# Altium integrated library Actel ProASIC3 nano.IntLib: 200 symbols (part 2 of 15)
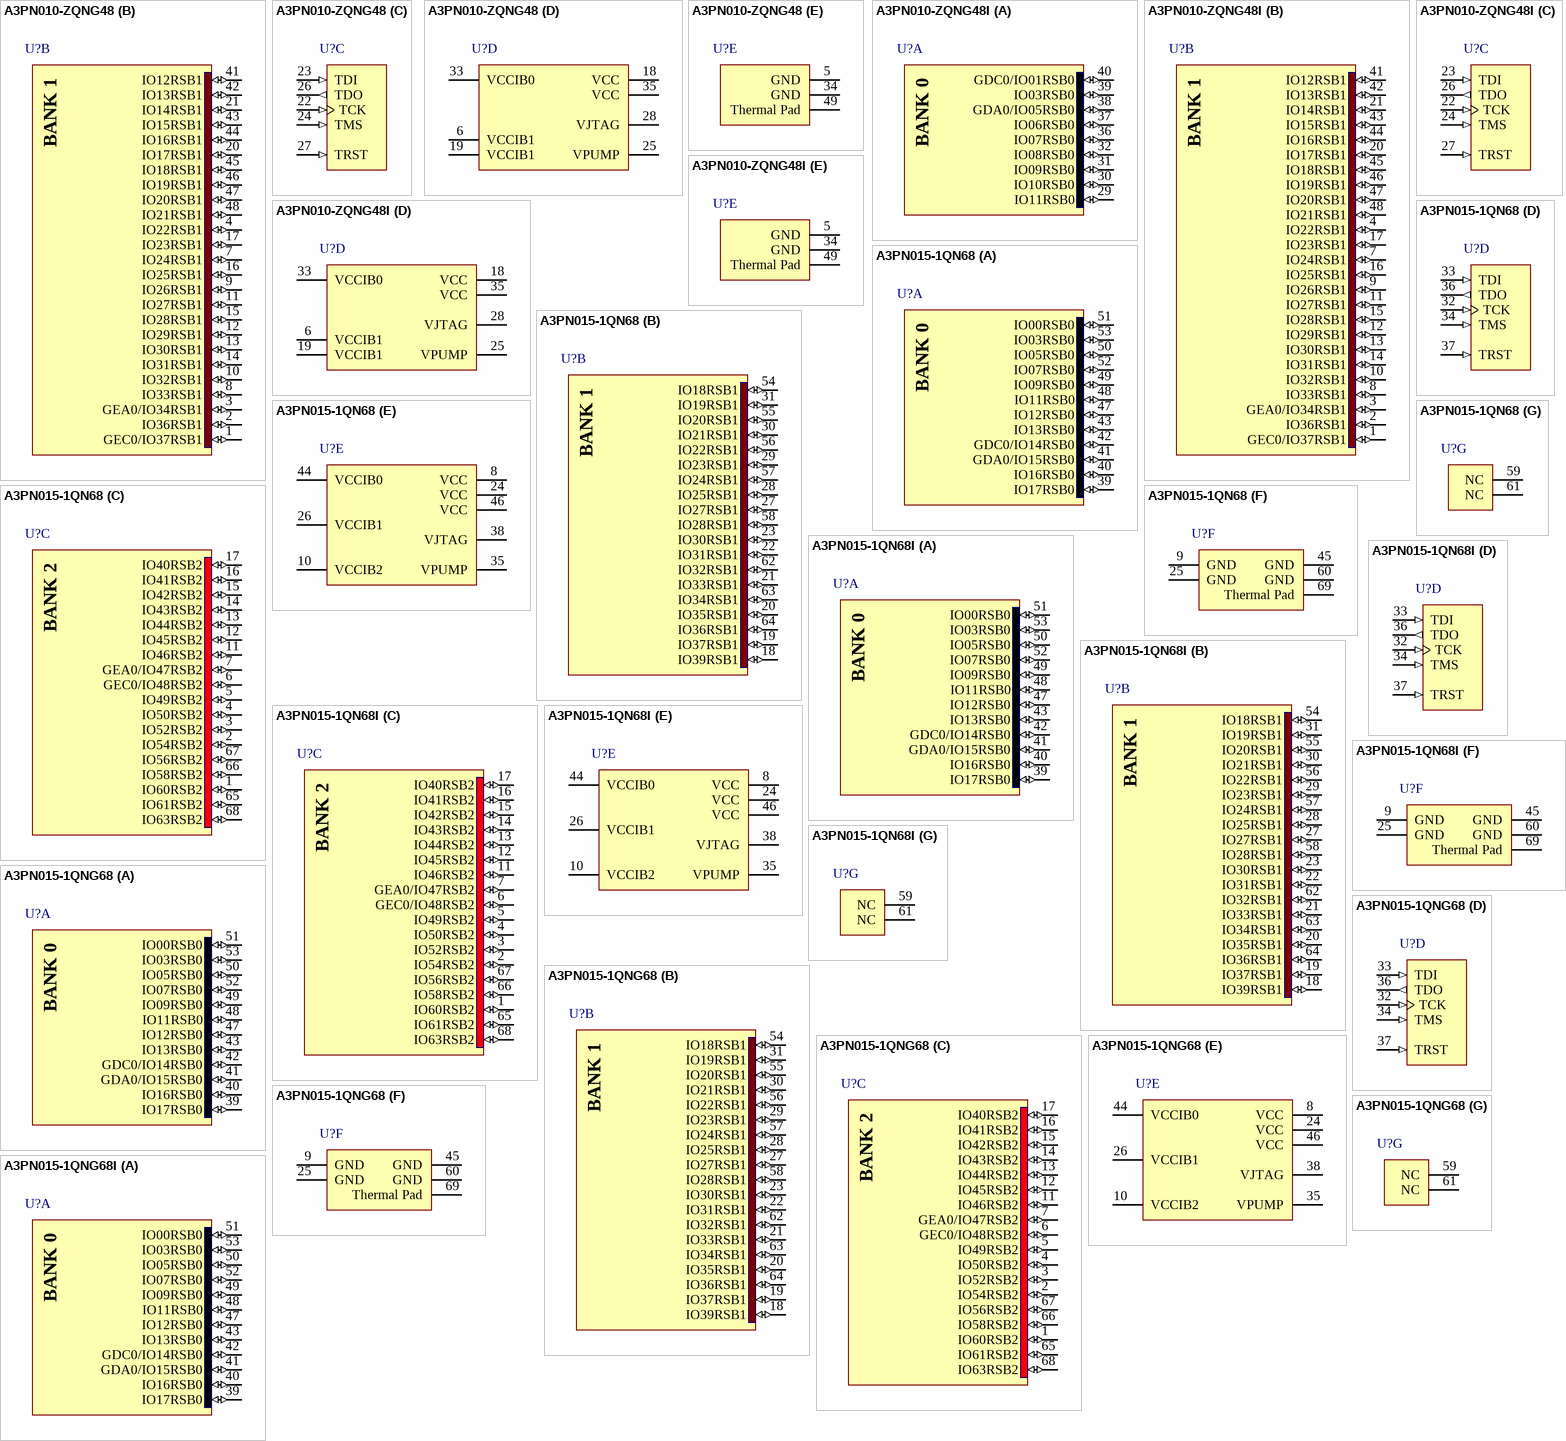
[diagram p50: symbols A3PN010-ZQNG48 to A3PN015-1QNG68I]

## A3PN010-ZQNG48
designator U?
ProASIC3 nano Flash FPGA, 34 User IOs, 10K System Gates, Z Feature Grade, Standard Speed, 48-Pin QFP, Pb-Free, Commerical Grade; DatasheetVersion: v0.6, Jan-2010; PackageVersion: rev40, Jun-2011; PackageReference: QN48; PackageDescription: 48-Pin Quad Flat No-Lead 0.4 mm Pitch (QN48); Code_JEDEC: MO-220-VLLE-1; ComponentLink1Description: Manufacturer URL; ComponentLink1URL: http://www.actel.com/; ComponentLink2Description: ProASIC3 Datasheet; ComponentLink2URL: http://www.actel.com/documents/PA3_nano_DS.pdf; ComponentLink3Description: Package Mechanical Drawings; ComponentLink3URL: http://www.actel.com/documents/PckgMechDrwngs.pdf; ComponentLink4Description: ProASIC3 nano Documents; ComponentLink4URL: http://www.actel.com/products/pa3nano/docs.aspx
footprint QN48_N (QFN, 48-Leads, Body 6x6mm, Pitch 0.4mm, Thermal Pad 4.8x4.8mm, IPC Medium Density)
footprint QN48_L (QFN, 48-Leads, Body 6x6mm, Pitch 0.4mm, Thermal Pad 4.8x4.8mm, IPC High Density)
footprint QN48_M (QFN, 48-Leads, Body 6x6mm, Pitch 0.4mm, Thermal Pad 4.8x4.8mm, IPC Low Density)
part A pins: 29 IO11RSB0 (io), 30 IO10RSB0 (io), 31 IO09RSB0 (io), 32 IO08RSB0 (io), 36 IO07RSB0 (io), 37 IO06RSB0 (io), 38 GDA0/IO05RSB0 (io), 39 IO03RSB0 (io), 40 GDC0/IO01RSB0 (io)
part B pins: 1 GEC0/IO37RSB1 (io), 2 IO36RSB1 (io), 3 GEA0/IO34RSB1 (io), 4 IO22RSB1 (io), 7 IO24RSB1 (io), 8 IO33RSB1 (io), 9 IO26RSB1 (io), 10 IO32RSB1 (io), 11 IO27RSB1 (io), 12 IO29RSB1 (io), 13 IO30RSB1 (io), 14 IO31RSB1 (io), 15 IO28RSB1 (io), 16 IO25RSB1 (io), 17 IO23RSB1 (io), 20 IO17RSB1 (io), 21 IO14RSB1 (io), 41 IO12RSB1 (io), 42 IO13RSB1 (io), 43 IO15RSB1 (io), 44 IO16RSB1 (io), 45 IO18RSB1 (io), 46 IO19RSB1 (io), 47 IO20RSB1 (io), 48 IO21RSB1 (io)
part C pins: 22 TCK (in), 23 TDI (in), 24 TMS (in), 26 TDO (out), 27 TRST (in)
part D pins: 6 VCCIB1 (power), 18 VCC (power), 19 VCCIB1 (power), 25 VPUMP (power), 28 VJTAG (power), 33 VCCIB0 (power), 35 VCC (power)
part E pins: 5 GND (power), 34 GND (power), 49 Thermal Pad (power)
part A text: BANK 0
part B text: BANK 1

## A3PN010-ZQNG48I
designator U?
ProASIC3 nano Flash FPGA, 34 User IOs, 10K System Gates, Z Feature Grade, Standard Speed, 48-Pin QFP, Pb-Free, Industrial Grade; DatasheetVersion: v0.6, Jan-2010; PackageVersion: rev40, Jun-2011; PackageReference: QN48; PackageDescription: 48-Pin Quad Flat No-Lead 0.4 mm Pitch (QN48); Code_JEDEC: MO-220-VLLE-1; ComponentLink1Description: Manufacturer URL; ComponentLink1URL: http://www.actel.com/; ComponentLink2Description: ProASIC3 Datasheet; ComponentLink2URL: http://www.actel.com/documents/PA3_nano_DS.pdf; ComponentLink3Description: Package Mechanical Drawings; ComponentLink3URL: http://www.actel.com/documents/PckgMechDrwngs.pdf; ComponentLink4Description: ProASIC3 nano Documents; ComponentLink4URL: http://www.actel.com/products/pa3nano/docs.aspx
footprint QN48_N (QFN, 48-Leads, Body 6x6mm, Pitch 0.4mm, Thermal Pad 4.8x4.8mm, IPC Medium Density)
footprint QN48_L (QFN, 48-Leads, Body 6x6mm, Pitch 0.4mm, Thermal Pad 4.8x4.8mm, IPC High Density)
footprint QN48_M (QFN, 48-Leads, Body 6x6mm, Pitch 0.4mm, Thermal Pad 4.8x4.8mm, IPC Low Density)
part A pins: 29 IO11RSB0 (io), 30 IO10RSB0 (io), 31 IO09RSB0 (io), 32 IO08RSB0 (io), 36 IO07RSB0 (io), 37 IO06RSB0 (io), 38 GDA0/IO05RSB0 (io), 39 IO03RSB0 (io), 40 GDC0/IO01RSB0 (io)
part B pins: 1 GEC0/IO37RSB1 (io), 2 IO36RSB1 (io), 3 GEA0/IO34RSB1 (io), 4 IO22RSB1 (io), 7 IO24RSB1 (io), 8 IO33RSB1 (io), 9 IO26RSB1 (io), 10 IO32RSB1 (io), 11 IO27RSB1 (io), 12 IO29RSB1 (io), 13 IO30RSB1 (io), 14 IO31RSB1 (io), 15 IO28RSB1 (io), 16 IO25RSB1 (io), 17 IO23RSB1 (io), 20 IO17RSB1 (io), 21 IO14RSB1 (io), 41 IO12RSB1 (io), 42 IO13RSB1 (io), 43 IO15RSB1 (io), 44 IO16RSB1 (io), 45 IO18RSB1 (io), 46 IO19RSB1 (io), 47 IO20RSB1 (io), 48 IO21RSB1 (io)
part C pins: 22 TCK (in), 23 TDI (in), 24 TMS (in), 26 TDO (out), 27 TRST (in)
part D pins: 6 VCCIB1 (power), 18 VCC (power), 19 VCCIB1 (power), 25 VPUMP (power), 28 VJTAG (power), 33 VCCIB0 (power), 35 VCC (power)
part E pins: 5 GND (power), 34 GND (power), 49 Thermal Pad (power)
part A text: BANK 0
part B text: BANK 1

## A3PN015-1QN68
designator U?
ProASIC3 nano Flash FPGA, 49 User IOs, 15K System Gates, Speed 15% above Standard, 68-Pin QFP, Commerical Grade; DatasheetVersion: v0.6, Jan-2010; PackageVersion: rev40, Jun-2011; PackageReference: QN68; PackageDescription: 68-Pin Quad Flat No-Lead 0.4 mm Pitch (QN68); Code_JEDEC: MO-220-VLLE-1; ComponentLink1Description: Manufacturer URL; ComponentLink1URL: http://www.actel.com/; ComponentLink2Description: ProASIC3 Datasheet; ComponentLink2URL: http://www.actel.com/documents/PA3_nano_DS.pdf; ComponentLink3Description: Package Mechanical Drawings; ComponentLink3URL: http://www.actel.com/documents/PckgMechDrwngs.pdf; ComponentLink4Description: ProASIC3 nano Documents; ComponentLink4URL: http://www.actel.com/products/pa3nano/docs.aspx
footprint QN68_N (QFN, 68-Leads, Body 8x8mm, Pitch 0.4mm, Thermal Pad 3.1x3.1mm, IPC Medium Density)
footprint QN68_L (QFN, 68-Leads, Body 8x8mm, Pitch 0.4mm, Thermal Pad 3.1x3.1mm, IPC High Density)
footprint QN68_M (QFN, 68-Leads, Body 8x8mm, Pitch 0.4mm, Thermal Pad 3.1x3.1mm, IPC Low Density)
part A pins: 39 IO17RSB0 (io), 40 IO16RSB0 (io), 41 GDA0/IO15RSB0 (io), 42 GDC0/IO14RSB0 (io), 43 IO13RSB0 (io), 47 IO12RSB0 (io), 48 IO11RSB0 (io), 49 IO09RSB0 (io), 50 IO05RSB0 (io), 51 IO00RSB0 (io), 52 IO07RSB0 (io), 53 IO03RSB0 (io)
part B pins: 18 IO39RSB1 (io), 19 IO37RSB1 (io), 20 IO35RSB1 (io), 21 IO33RSB1 (io), 22 IO31RSB1 (io), 23 IO30RSB1 (io), 27 IO27RSB1 (io), 28 IO25RSB1 (io), 29 IO23RSB1 (io), 30 IO21RSB1 (io), 31 IO19RSB1 (io), 54 IO18RSB1 (io), 55 IO20RSB1 (io), 56 IO22RSB1 (io), 57 IO24RSB1 (io), 58 IO28RSB1 (io), 62 IO32RSB1 (io), 63 IO34RSB1 (io), 64 IO36RSB1 (io)
part C pins: 1 IO60RSB2 (io), 2 IO54RSB2 (io), 3 IO52RSB2 (io), 4 IO50RSB2 (io), 5 IO49RSB2 (io), 6 GEC0/IO48RSB2 (io), 7 GEA0/IO47RSB2 (io), 11 IO46RSB2 (io), 12 IO45RSB2 (io), 13 IO44RSB2 (io), 14 IO43RSB2 (io), 15 IO42RSB2 (io), 16 IO41RSB2 (io), 17 IO40RSB2 (io), 65 IO61RSB2 (io), 66 IO58RSB2 (io), 67 IO56RSB2 (io), 68 IO63RSB2 (io)
part D pins: 32 TCK (in), 33 TDI (in), 34 TMS (in), 36 TDO (out), 37 TRST (in)
part E pins: 8 VCC (power), 10 VCCIB2 (power), 24 VCC (power), 26 VCCIB1 (power), 35 VPUMP (power), 38 VJTAG (power), 44 VCCIB0 (power), 46 VCC (power)
part F pins: 9 GND (power), 25 GND (power), 45 GND (power), 60 GND (power), 69 Thermal Pad (power)
part G pins: 59 NC, 61 NC
part A text: BANK 0
part B text: BANK 1
part C text: BANK 2

## A3PN015-1QN68I
designator U?
ProASIC3 nano Flash FPGA, 49 User IOs, 15K System Gates, Speed 15% above Standard, 68-Pin QFP, Industrial Grade; DatasheetVersion: v0.6, Jan-2010; PackageVersion: rev40, Jun-2011; PackageReference: QN68; PackageDescription: 68-Pin Quad Flat No-Lead 0.4 mm Pitch (QN68); Code_JEDEC: MO-220-VLLE-1; ComponentLink1Description: Manufacturer URL; ComponentLink1URL: http://www.actel.com/; ComponentLink2Description: ProASIC3 Datasheet; ComponentLink2URL: http://www.actel.com/documents/PA3_nano_DS.pdf; ComponentLink3Description: Package Mechanical Drawings; ComponentLink3URL: http://www.actel.com/documents/PckgMechDrwngs.pdf; ComponentLink4Description: ProASIC3 nano Documents; ComponentLink4URL: http://www.actel.com/products/pa3nano/docs.aspx
footprint QN68_N (QFN, 68-Leads, Body 8x8mm, Pitch 0.4mm, Thermal Pad 3.1x3.1mm, IPC Medium Density)
footprint QN68_L (QFN, 68-Leads, Body 8x8mm, Pitch 0.4mm, Thermal Pad 3.1x3.1mm, IPC High Density)
footprint QN68_M (QFN, 68-Leads, Body 8x8mm, Pitch 0.4mm, Thermal Pad 3.1x3.1mm, IPC Low Density)
part A pins: 39 IO17RSB0 (io), 40 IO16RSB0 (io), 41 GDA0/IO15RSB0 (io), 42 GDC0/IO14RSB0 (io), 43 IO13RSB0 (io), 47 IO12RSB0 (io), 48 IO11RSB0 (io), 49 IO09RSB0 (io), 50 IO05RSB0 (io), 51 IO00RSB0 (io), 52 IO07RSB0 (io), 53 IO03RSB0 (io)
part B pins: 18 IO39RSB1 (io), 19 IO37RSB1 (io), 20 IO35RSB1 (io), 21 IO33RSB1 (io), 22 IO31RSB1 (io), 23 IO30RSB1 (io), 27 IO27RSB1 (io), 28 IO25RSB1 (io), 29 IO23RSB1 (io), 30 IO21RSB1 (io), 31 IO19RSB1 (io), 54 IO18RSB1 (io), 55 IO20RSB1 (io), 56 IO22RSB1 (io), 57 IO24RSB1 (io), 58 IO28RSB1 (io), 62 IO32RSB1 (io), 63 IO34RSB1 (io), 64 IO36RSB1 (io)
part C pins: 1 IO60RSB2 (io), 2 IO54RSB2 (io), 3 IO52RSB2 (io), 4 IO50RSB2 (io), 5 IO49RSB2 (io), 6 GEC0/IO48RSB2 (io), 7 GEA0/IO47RSB2 (io), 11 IO46RSB2 (io), 12 IO45RSB2 (io), 13 IO44RSB2 (io), 14 IO43RSB2 (io), 15 IO42RSB2 (io), 16 IO41RSB2 (io), 17 IO40RSB2 (io), 65 IO61RSB2 (io), 66 IO58RSB2 (io), 67 IO56RSB2 (io), 68 IO63RSB2 (io)
part D pins: 32 TCK (in), 33 TDI (in), 34 TMS (in), 36 TDO (out), 37 TRST (in)
part E pins: 8 VCC (power), 10 VCCIB2 (power), 24 VCC (power), 26 VCCIB1 (power), 35 VPUMP (power), 38 VJTAG (power), 44 VCCIB0 (power), 46 VCC (power)
part F pins: 9 GND (power), 25 GND (power), 45 GND (power), 60 GND (power), 69 Thermal Pad (power)
part G pins: 59 NC, 61 NC
part A text: BANK 0
part B text: BANK 1
part C text: BANK 2

## A3PN015-1QNG68
designator U?
ProASIC3 nano Flash FPGA, 49 User IOs, 15K System Gates, Speed 15% above Standard, 68-Pin QFP, Pb-Free, Commerical Grade; DatasheetVersion: v0.6, Jan-2010; PackageVersion: rev40, Jun-2011; PackageReference: QN68; PackageDescription: 68-Pin Quad Flat No-Lead 0.4 mm Pitch (QN68); Code_JEDEC: MO-220-VLLE-1; ComponentLink1Description: Manufacturer URL; ComponentLink1URL: http://www.actel.com/; ComponentLink2Description: ProASIC3 Datasheet; ComponentLink2URL: http://www.actel.com/documents/PA3_nano_DS.pdf; ComponentLink3Description: Package Mechanical Drawings; ComponentLink3URL: http://www.actel.com/documents/PckgMechDrwngs.pdf; ComponentLink4Description: ProASIC3 nano Documents; ComponentLink4URL: http://www.actel.com/products/pa3nano/docs.aspx
footprint QN68_N (QFN, 68-Leads, Body 8x8mm, Pitch 0.4mm, Thermal Pad 3.1x3.1mm, IPC Medium Density)
footprint QN68_L (QFN, 68-Leads, Body 8x8mm, Pitch 0.4mm, Thermal Pad 3.1x3.1mm, IPC High Density)
footprint QN68_M (QFN, 68-Leads, Body 8x8mm, Pitch 0.4mm, Thermal Pad 3.1x3.1mm, IPC Low Density)
part A pins: 39 IO17RSB0 (io), 40 IO16RSB0 (io), 41 GDA0/IO15RSB0 (io), 42 GDC0/IO14RSB0 (io), 43 IO13RSB0 (io), 47 IO12RSB0 (io), 48 IO11RSB0 (io), 49 IO09RSB0 (io), 50 IO05RSB0 (io), 51 IO00RSB0 (io), 52 IO07RSB0 (io), 53 IO03RSB0 (io)
part B pins: 18 IO39RSB1 (io), 19 IO37RSB1 (io), 20 IO35RSB1 (io), 21 IO33RSB1 (io), 22 IO31RSB1 (io), 23 IO30RSB1 (io), 27 IO27RSB1 (io), 28 IO25RSB1 (io), 29 IO23RSB1 (io), 30 IO21RSB1 (io), 31 IO19RSB1 (io), 54 IO18RSB1 (io), 55 IO20RSB1 (io), 56 IO22RSB1 (io), 57 IO24RSB1 (io), 58 IO28RSB1 (io), 62 IO32RSB1 (io), 63 IO34RSB1 (io), 64 IO36RSB1 (io)
part C pins: 1 IO60RSB2 (io), 2 IO54RSB2 (io), 3 IO52RSB2 (io), 4 IO50RSB2 (io), 5 IO49RSB2 (io), 6 GEC0/IO48RSB2 (io), 7 GEA0/IO47RSB2 (io), 11 IO46RSB2 (io), 12 IO45RSB2 (io), 13 IO44RSB2 (io), 14 IO43RSB2 (io), 15 IO42RSB2 (io), 16 IO41RSB2 (io), 17 IO40RSB2 (io), 65 IO61RSB2 (io), 66 IO58RSB2 (io), 67 IO56RSB2 (io), 68 IO63RSB2 (io)
part D pins: 32 TCK (in), 33 TDI (in), 34 TMS (in), 36 TDO (out), 37 TRST (in)
part E pins: 8 VCC (power), 10 VCCIB2 (power), 24 VCC (power), 26 VCCIB1 (power), 35 VPUMP (power), 38 VJTAG (power), 44 VCCIB0 (power), 46 VCC (power)
part F pins: 9 GND (power), 25 GND (power), 45 GND (power), 60 GND (power), 69 Thermal Pad (power)
part G pins: 59 NC, 61 NC
part A text: BANK 0
part B text: BANK 1
part C text: BANK 2

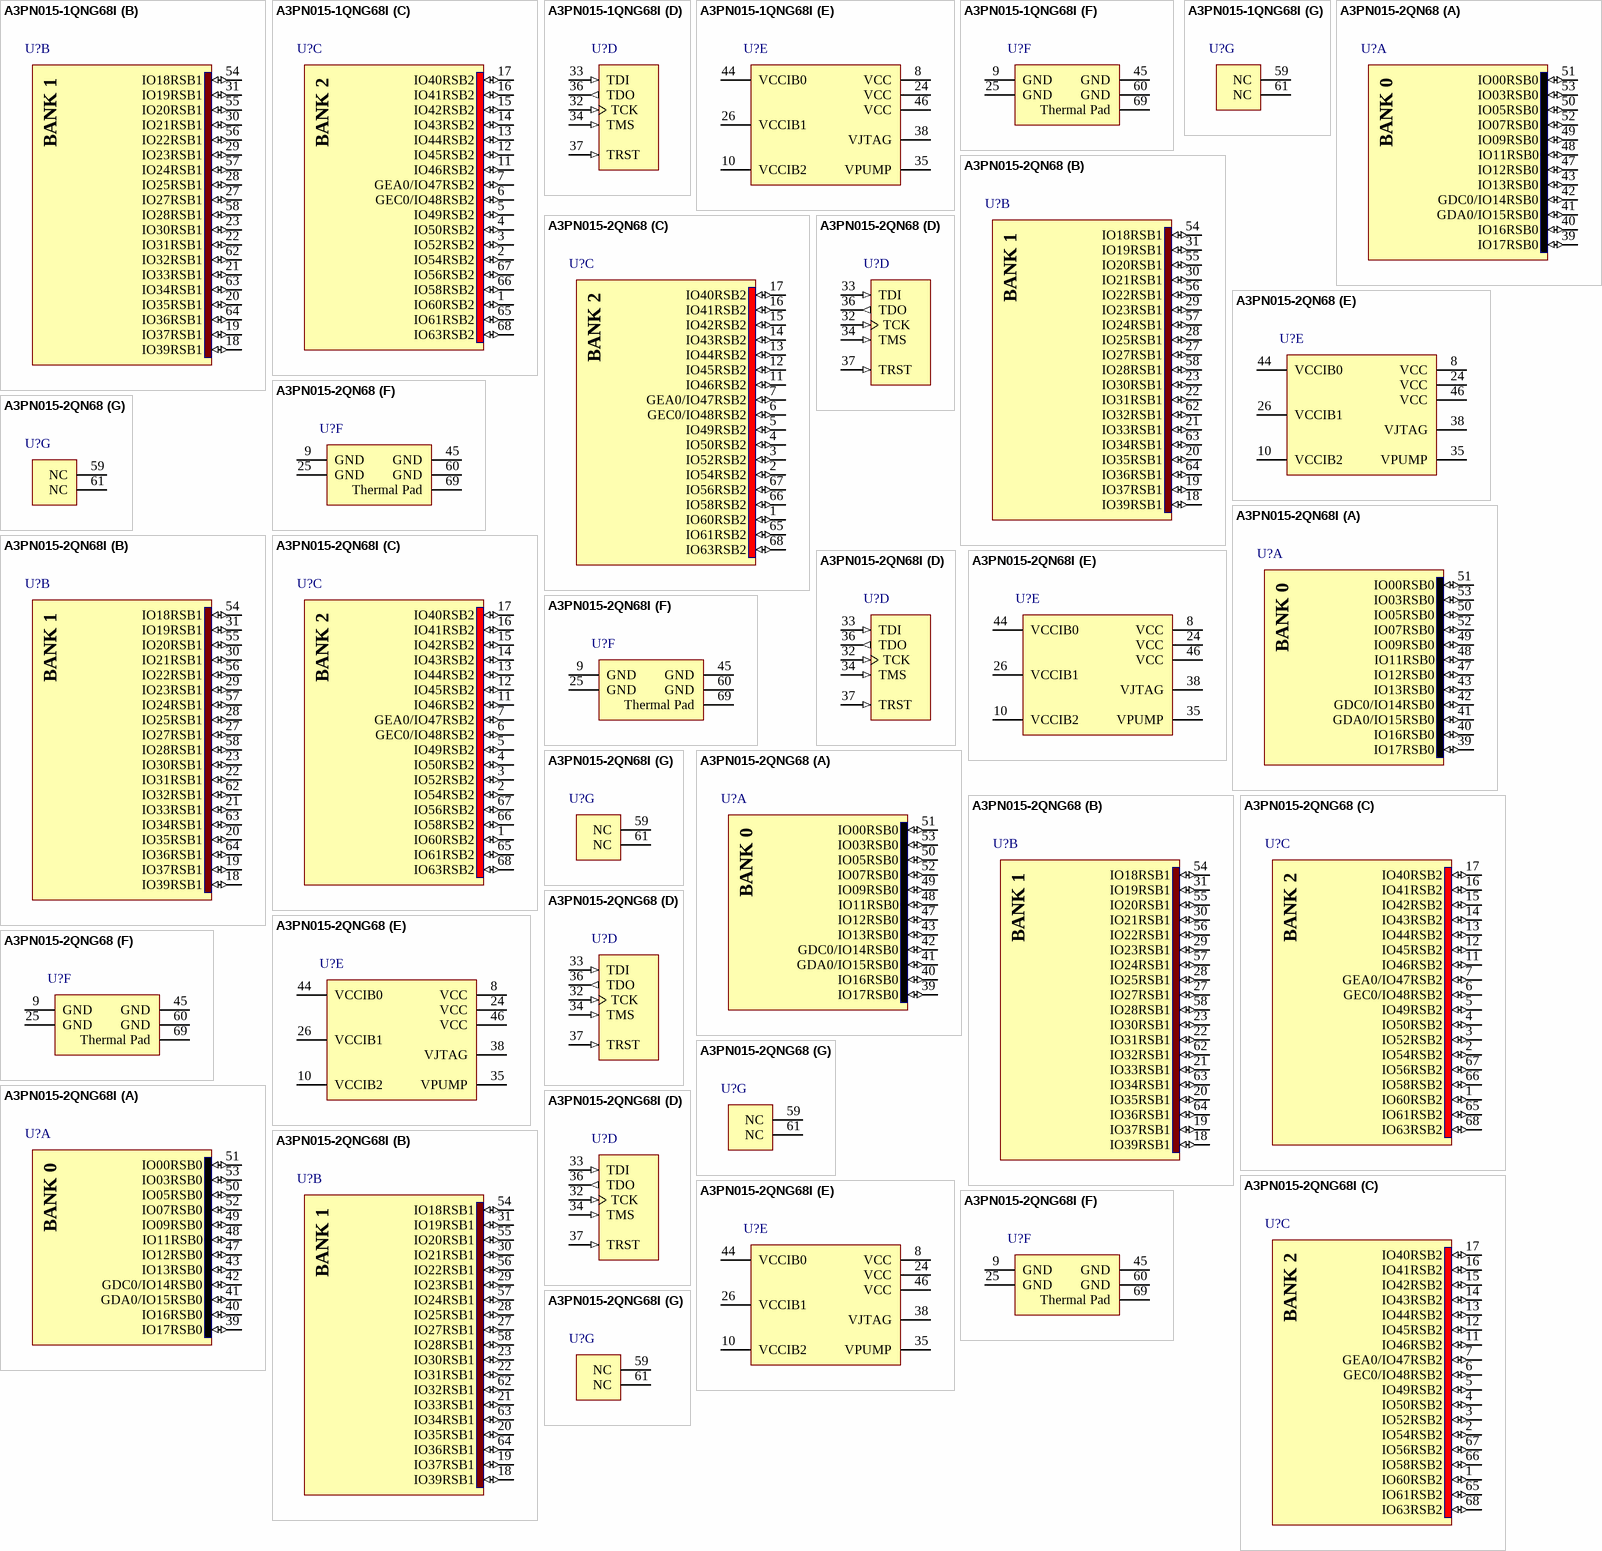
[diagram p5: symbols A3PN015-1QNG68I to A3PN015-2QNG68I]

## A3PN015-1QNG68I
designator U?
ProASIC3 nano Flash FPGA, 49 User IOs, 15K System Gates, Speed 15% above Standard, 68-Pin QFP, Pb-Free, Industrial Grade; DatasheetVersion: v0.6, Jan-2010; PackageVersion: rev40, Jun-2011; PackageReference: QN68; PackageDescription: 68-Pin Quad Flat No-Lead 0.4 mm Pitch (QN68); Code_JEDEC: MO-220-VLLE-1; ComponentLink1Description: Manufacturer URL; ComponentLink1URL: http://www.actel.com/; ComponentLink2Description: ProASIC3 Datasheet; ComponentLink2URL: http://www.actel.com/documents/PA3_nano_DS.pdf; ComponentLink3Description: Package Mechanical Drawings; ComponentLink3URL: http://www.actel.com/documents/PckgMechDrwngs.pdf; ComponentLink4Description: ProASIC3 nano Documents; ComponentLink4URL: http://www.actel.com/products/pa3nano/docs.aspx
footprint QN68_N (QFN, 68-Leads, Body 8x8mm, Pitch 0.4mm, Thermal Pad 3.1x3.1mm, IPC Medium Density)
footprint QN68_L (QFN, 68-Leads, Body 8x8mm, Pitch 0.4mm, Thermal Pad 3.1x3.1mm, IPC High Density)
footprint QN68_M (QFN, 68-Leads, Body 8x8mm, Pitch 0.4mm, Thermal Pad 3.1x3.1mm, IPC Low Density)
part A pins: 39 IO17RSB0 (io), 40 IO16RSB0 (io), 41 GDA0/IO15RSB0 (io), 42 GDC0/IO14RSB0 (io), 43 IO13RSB0 (io), 47 IO12RSB0 (io), 48 IO11RSB0 (io), 49 IO09RSB0 (io), 50 IO05RSB0 (io), 51 IO00RSB0 (io), 52 IO07RSB0 (io), 53 IO03RSB0 (io)
part B pins: 18 IO39RSB1 (io), 19 IO37RSB1 (io), 20 IO35RSB1 (io), 21 IO33RSB1 (io), 22 IO31RSB1 (io), 23 IO30RSB1 (io), 27 IO27RSB1 (io), 28 IO25RSB1 (io), 29 IO23RSB1 (io), 30 IO21RSB1 (io), 31 IO19RSB1 (io), 54 IO18RSB1 (io), 55 IO20RSB1 (io), 56 IO22RSB1 (io), 57 IO24RSB1 (io), 58 IO28RSB1 (io), 62 IO32RSB1 (io), 63 IO34RSB1 (io), 64 IO36RSB1 (io)
part C pins: 1 IO60RSB2 (io), 2 IO54RSB2 (io), 3 IO52RSB2 (io), 4 IO50RSB2 (io), 5 IO49RSB2 (io), 6 GEC0/IO48RSB2 (io), 7 GEA0/IO47RSB2 (io), 11 IO46RSB2 (io), 12 IO45RSB2 (io), 13 IO44RSB2 (io), 14 IO43RSB2 (io), 15 IO42RSB2 (io), 16 IO41RSB2 (io), 17 IO40RSB2 (io), 65 IO61RSB2 (io), 66 IO58RSB2 (io), 67 IO56RSB2 (io), 68 IO63RSB2 (io)
part D pins: 32 TCK (in), 33 TDI (in), 34 TMS (in), 36 TDO (out), 37 TRST (in)
part E pins: 8 VCC (power), 10 VCCIB2 (power), 24 VCC (power), 26 VCCIB1 (power), 35 VPUMP (power), 38 VJTAG (power), 44 VCCIB0 (power), 46 VCC (power)
part F pins: 9 GND (power), 25 GND (power), 45 GND (power), 60 GND (power), 69 Thermal Pad (power)
part G pins: 59 NC, 61 NC
part A text: BANK 0
part B text: BANK 1
part C text: BANK 2

## A3PN015-2QN68
designator U?
ProASIC3 nano Flash FPGA, 49 User IOs, 15K System Gates, Speed 25% above Standard, 68-Pin QFP, Commerical Grade; DatasheetVersion: v0.6, Jan-2010; PackageVersion: rev40, Jun-2011; PackageReference: QN68; PackageDescription: 68-Pin Quad Flat No-Lead 0.4 mm Pitch (QN68); Code_JEDEC: MO-220-VLLE-1; ComponentLink1Description: Manufacturer URL; ComponentLink1URL: http://www.actel.com/; ComponentLink2Description: ProASIC3 Datasheet; ComponentLink2URL: http://www.actel.com/documents/PA3_nano_DS.pdf; ComponentLink3Description: Package Mechanical Drawings; ComponentLink3URL: http://www.actel.com/documents/PckgMechDrwngs.pdf; ComponentLink4Description: ProASIC3 nano Documents; ComponentLink4URL: http://www.actel.com/products/pa3nano/docs.aspx
footprint QN68_N (QFN, 68-Leads, Body 8x8mm, Pitch 0.4mm, Thermal Pad 3.1x3.1mm, IPC Medium Density)
footprint QN68_L (QFN, 68-Leads, Body 8x8mm, Pitch 0.4mm, Thermal Pad 3.1x3.1mm, IPC High Density)
footprint QN68_M (QFN, 68-Leads, Body 8x8mm, Pitch 0.4mm, Thermal Pad 3.1x3.1mm, IPC Low Density)
part A pins: 39 IO17RSB0 (io), 40 IO16RSB0 (io), 41 GDA0/IO15RSB0 (io), 42 GDC0/IO14RSB0 (io), 43 IO13RSB0 (io), 47 IO12RSB0 (io), 48 IO11RSB0 (io), 49 IO09RSB0 (io), 50 IO05RSB0 (io), 51 IO00RSB0 (io), 52 IO07RSB0 (io), 53 IO03RSB0 (io)
part B pins: 18 IO39RSB1 (io), 19 IO37RSB1 (io), 20 IO35RSB1 (io), 21 IO33RSB1 (io), 22 IO31RSB1 (io), 23 IO30RSB1 (io), 27 IO27RSB1 (io), 28 IO25RSB1 (io), 29 IO23RSB1 (io), 30 IO21RSB1 (io), 31 IO19RSB1 (io), 54 IO18RSB1 (io), 55 IO20RSB1 (io), 56 IO22RSB1 (io), 57 IO24RSB1 (io), 58 IO28RSB1 (io), 62 IO32RSB1 (io), 63 IO34RSB1 (io), 64 IO36RSB1 (io)
part C pins: 1 IO60RSB2 (io), 2 IO54RSB2 (io), 3 IO52RSB2 (io), 4 IO50RSB2 (io), 5 IO49RSB2 (io), 6 GEC0/IO48RSB2 (io), 7 GEA0/IO47RSB2 (io), 11 IO46RSB2 (io), 12 IO45RSB2 (io), 13 IO44RSB2 (io), 14 IO43RSB2 (io), 15 IO42RSB2 (io), 16 IO41RSB2 (io), 17 IO40RSB2 (io), 65 IO61RSB2 (io), 66 IO58RSB2 (io), 67 IO56RSB2 (io), 68 IO63RSB2 (io)
part D pins: 32 TCK (in), 33 TDI (in), 34 TMS (in), 36 TDO (out), 37 TRST (in)
part E pins: 8 VCC (power), 10 VCCIB2 (power), 24 VCC (power), 26 VCCIB1 (power), 35 VPUMP (power), 38 VJTAG (power), 44 VCCIB0 (power), 46 VCC (power)
part F pins: 9 GND (power), 25 GND (power), 45 GND (power), 60 GND (power), 69 Thermal Pad (power)
part G pins: 59 NC, 61 NC
part A text: BANK 0
part B text: BANK 1
part C text: BANK 2

## A3PN015-2QN68I
designator U?
ProASIC3 nano Flash FPGA, 49 User IOs, 15K System Gates, Speed 25% above Standard, 68-Pin QFP, Industrial Grade; DatasheetVersion: v0.6, Jan-2010; PackageVersion: rev40, Jun-2011; PackageReference: QN68; PackageDescription: 68-Pin Quad Flat No-Lead 0.4 mm Pitch (QN68); Code_JEDEC: MO-220-VLLE-1; ComponentLink1Description: Manufacturer URL; ComponentLink1URL: http://www.actel.com/; ComponentLink2Description: ProASIC3 Datasheet; ComponentLink2URL: http://www.actel.com/documents/PA3_nano_DS.pdf; ComponentLink3Description: Package Mechanical Drawings; ComponentLink3URL: http://www.actel.com/documents/PckgMechDrwngs.pdf; ComponentLink4Description: ProASIC3 nano Documents; ComponentLink4URL: http://www.actel.com/products/pa3nano/docs.aspx
footprint QN68_N (QFN, 68-Leads, Body 8x8mm, Pitch 0.4mm, Thermal Pad 3.1x3.1mm, IPC Medium Density)
footprint QN68_L (QFN, 68-Leads, Body 8x8mm, Pitch 0.4mm, Thermal Pad 3.1x3.1mm, IPC High Density)
footprint QN68_M (QFN, 68-Leads, Body 8x8mm, Pitch 0.4mm, Thermal Pad 3.1x3.1mm, IPC Low Density)
part A pins: 39 IO17RSB0 (io), 40 IO16RSB0 (io), 41 GDA0/IO15RSB0 (io), 42 GDC0/IO14RSB0 (io), 43 IO13RSB0 (io), 47 IO12RSB0 (io), 48 IO11RSB0 (io), 49 IO09RSB0 (io), 50 IO05RSB0 (io), 51 IO00RSB0 (io), 52 IO07RSB0 (io), 53 IO03RSB0 (io)
part B pins: 18 IO39RSB1 (io), 19 IO37RSB1 (io), 20 IO35RSB1 (io), 21 IO33RSB1 (io), 22 IO31RSB1 (io), 23 IO30RSB1 (io), 27 IO27RSB1 (io), 28 IO25RSB1 (io), 29 IO23RSB1 (io), 30 IO21RSB1 (io), 31 IO19RSB1 (io), 54 IO18RSB1 (io), 55 IO20RSB1 (io), 56 IO22RSB1 (io), 57 IO24RSB1 (io), 58 IO28RSB1 (io), 62 IO32RSB1 (io), 63 IO34RSB1 (io), 64 IO36RSB1 (io)
part C pins: 1 IO60RSB2 (io), 2 IO54RSB2 (io), 3 IO52RSB2 (io), 4 IO50RSB2 (io), 5 IO49RSB2 (io), 6 GEC0/IO48RSB2 (io), 7 GEA0/IO47RSB2 (io), 11 IO46RSB2 (io), 12 IO45RSB2 (io), 13 IO44RSB2 (io), 14 IO43RSB2 (io), 15 IO42RSB2 (io), 16 IO41RSB2 (io), 17 IO40RSB2 (io), 65 IO61RSB2 (io), 66 IO58RSB2 (io), 67 IO56RSB2 (io), 68 IO63RSB2 (io)
part D pins: 32 TCK (in), 33 TDI (in), 34 TMS (in), 36 TDO (out), 37 TRST (in)
part E pins: 8 VCC (power), 10 VCCIB2 (power), 24 VCC (power), 26 VCCIB1 (power), 35 VPUMP (power), 38 VJTAG (power), 44 VCCIB0 (power), 46 VCC (power)
part F pins: 9 GND (power), 25 GND (power), 45 GND (power), 60 GND (power), 69 Thermal Pad (power)
part G pins: 59 NC, 61 NC
part A text: BANK 0
part B text: BANK 1
part C text: BANK 2

## A3PN015-2QNG68
designator U?
ProASIC3 nano Flash FPGA, 49 User IOs, 15K System Gates, Speed 25% above Standard, 68-Pin QFP, Pb-Free, Commerical Grade; DatasheetVersion: v0.6, Jan-2010; PackageVersion: rev40, Jun-2011; PackageReference: QN68; PackageDescription: 68-Pin Quad Flat No-Lead 0.4 mm Pitch (QN68); Code_JEDEC: MO-220-VLLE-1; ComponentLink1Description: Manufacturer URL; ComponentLink1URL: http://www.actel.com/; ComponentLink2Description: ProASIC3 Datasheet; ComponentLink2URL: http://www.actel.com/documents/PA3_nano_DS.pdf; ComponentLink3Description: Package Mechanical Drawings; ComponentLink3URL: http://www.actel.com/documents/PckgMechDrwngs.pdf; ComponentLink4Description: ProASIC3 nano Documents; ComponentLink4URL: http://www.actel.com/products/pa3nano/docs.aspx
footprint QN68_N (QFN, 68-Leads, Body 8x8mm, Pitch 0.4mm, Thermal Pad 3.1x3.1mm, IPC Medium Density)
footprint QN68_L (QFN, 68-Leads, Body 8x8mm, Pitch 0.4mm, Thermal Pad 3.1x3.1mm, IPC High Density)
footprint QN68_M (QFN, 68-Leads, Body 8x8mm, Pitch 0.4mm, Thermal Pad 3.1x3.1mm, IPC Low Density)
part A pins: 39 IO17RSB0 (io), 40 IO16RSB0 (io), 41 GDA0/IO15RSB0 (io), 42 GDC0/IO14RSB0 (io), 43 IO13RSB0 (io), 47 IO12RSB0 (io), 48 IO11RSB0 (io), 49 IO09RSB0 (io), 50 IO05RSB0 (io), 51 IO00RSB0 (io), 52 IO07RSB0 (io), 53 IO03RSB0 (io)
part B pins: 18 IO39RSB1 (io), 19 IO37RSB1 (io), 20 IO35RSB1 (io), 21 IO33RSB1 (io), 22 IO31RSB1 (io), 23 IO30RSB1 (io), 27 IO27RSB1 (io), 28 IO25RSB1 (io), 29 IO23RSB1 (io), 30 IO21RSB1 (io), 31 IO19RSB1 (io), 54 IO18RSB1 (io), 55 IO20RSB1 (io), 56 IO22RSB1 (io), 57 IO24RSB1 (io), 58 IO28RSB1 (io), 62 IO32RSB1 (io), 63 IO34RSB1 (io), 64 IO36RSB1 (io)
part C pins: 1 IO60RSB2 (io), 2 IO54RSB2 (io), 3 IO52RSB2 (io), 4 IO50RSB2 (io), 5 IO49RSB2 (io), 6 GEC0/IO48RSB2 (io), 7 GEA0/IO47RSB2 (io), 11 IO46RSB2 (io), 12 IO45RSB2 (io), 13 IO44RSB2 (io), 14 IO43RSB2 (io), 15 IO42RSB2 (io), 16 IO41RSB2 (io), 17 IO40RSB2 (io), 65 IO61RSB2 (io), 66 IO58RSB2 (io), 67 IO56RSB2 (io), 68 IO63RSB2 (io)
part D pins: 32 TCK (in), 33 TDI (in), 34 TMS (in), 36 TDO (out), 37 TRST (in)
part E pins: 8 VCC (power), 10 VCCIB2 (power), 24 VCC (power), 26 VCCIB1 (power), 35 VPUMP (power), 38 VJTAG (power), 44 VCCIB0 (power), 46 VCC (power)
part F pins: 9 GND (power), 25 GND (power), 45 GND (power), 60 GND (power), 69 Thermal Pad (power)
part G pins: 59 NC, 61 NC
part A text: BANK 0
part B text: BANK 1
part C text: BANK 2

## A3PN015-2QNG68I
designator U?
ProASIC3 nano Flash FPGA, 49 User IOs, 15K System Gates, Speed 25% above Standard, 68-Pin QFP, Pb-Free, Industrial Grade; DatasheetVersion: v0.6, Jan-2010; PackageVersion: rev40, Jun-2011; PackageReference: QN68; PackageDescription: 68-Pin Quad Flat No-Lead 0.4 mm Pitch (QN68); Code_JEDEC: MO-220-VLLE-1; ComponentLink1Description: Manufacturer URL; ComponentLink1URL: http://www.actel.com/; ComponentLink2Description: ProASIC3 Datasheet; ComponentLink2URL: http://www.actel.com/documents/PA3_nano_DS.pdf; ComponentLink3Description: Package Mechanical Drawings; ComponentLink3URL: http://www.actel.com/documents/PckgMechDrwngs.pdf; ComponentLink4Description: ProASIC3 nano Documents; ComponentLink4URL: http://www.actel.com/products/pa3nano/docs.aspx
footprint QN68_N (QFN, 68-Leads, Body 8x8mm, Pitch 0.4mm, Thermal Pad 3.1x3.1mm, IPC Medium Density)
footprint QN68_L (QFN, 68-Leads, Body 8x8mm, Pitch 0.4mm, Thermal Pad 3.1x3.1mm, IPC High Density)
footprint QN68_M (QFN, 68-Leads, Body 8x8mm, Pitch 0.4mm, Thermal Pad 3.1x3.1mm, IPC Low Density)
part A pins: 39 IO17RSB0 (io), 40 IO16RSB0 (io), 41 GDA0/IO15RSB0 (io), 42 GDC0/IO14RSB0 (io), 43 IO13RSB0 (io), 47 IO12RSB0 (io), 48 IO11RSB0 (io), 49 IO09RSB0 (io), 50 IO05RSB0 (io), 51 IO00RSB0 (io), 52 IO07RSB0 (io), 53 IO03RSB0 (io)
part B pins: 18 IO39RSB1 (io), 19 IO37RSB1 (io), 20 IO35RSB1 (io), 21 IO33RSB1 (io), 22 IO31RSB1 (io), 23 IO30RSB1 (io), 27 IO27RSB1 (io), 28 IO25RSB1 (io), 29 IO23RSB1 (io), 30 IO21RSB1 (io), 31 IO19RSB1 (io), 54 IO18RSB1 (io), 55 IO20RSB1 (io), 56 IO22RSB1 (io), 57 IO24RSB1 (io), 58 IO28RSB1 (io), 62 IO32RSB1 (io), 63 IO34RSB1 (io), 64 IO36RSB1 (io)
part C pins: 1 IO60RSB2 (io), 2 IO54RSB2 (io), 3 IO52RSB2 (io), 4 IO50RSB2 (io), 5 IO49RSB2 (io), 6 GEC0/IO48RSB2 (io), 7 GEA0/IO47RSB2 (io), 11 IO46RSB2 (io), 12 IO45RSB2 (io), 13 IO44RSB2 (io), 14 IO43RSB2 (io), 15 IO42RSB2 (io), 16 IO41RSB2 (io), 17 IO40RSB2 (io), 65 IO61RSB2 (io), 66 IO58RSB2 (io), 67 IO56RSB2 (io), 68 IO63RSB2 (io)
part D pins: 32 TCK (in), 33 TDI (in), 34 TMS (in), 36 TDO (out), 37 TRST (in)
part E pins: 8 VCC (power), 10 VCCIB2 (power), 24 VCC (power), 26 VCCIB1 (power), 35 VPUMP (power), 38 VJTAG (power), 44 VCCIB0 (power), 46 VCC (power)
part F pins: 9 GND (power), 25 GND (power), 45 GND (power), 60 GND (power), 69 Thermal Pad (power)
part G pins: 59 NC, 61 NC
part A text: BANK 0
part B text: BANK 1
part C text: BANK 2

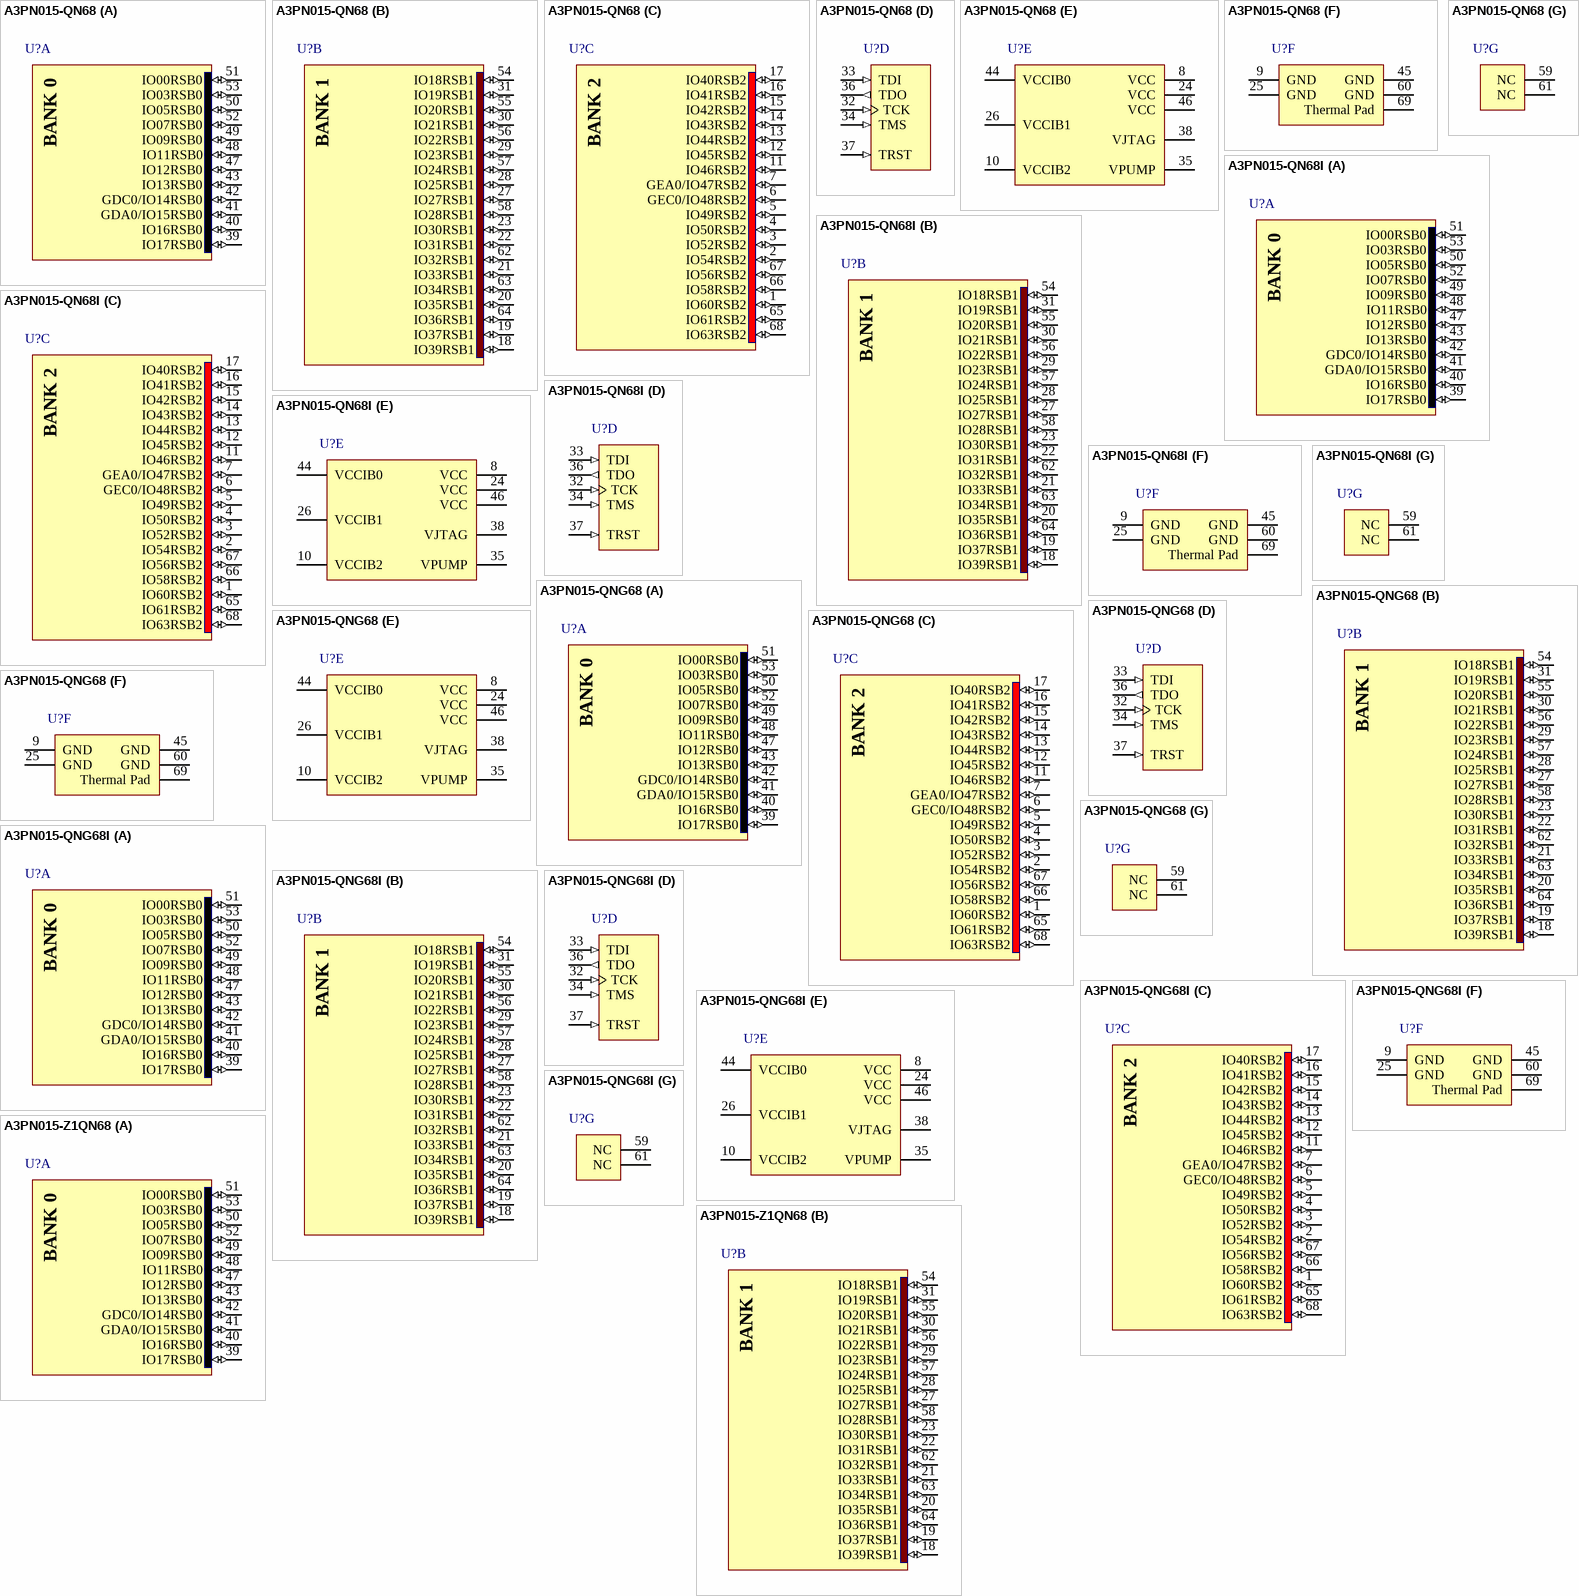
[diagram p6: symbols A3PN015-QN68 to A3PN015-Z1QN68]

## A3PN015-QN68
designator U?
ProASIC3 nano Flash FPGA, 49 User IOs, 15K System Gates, Standard Speed, 68-Pin QFP, Commerical Grade; DatasheetVersion: v0.6, Jan-2010; PackageVersion: rev40, Jun-2011; PackageReference: QN68; PackageDescription: 68-Pin Quad Flat No-Lead 0.4 mm Pitch (QN68); Code_JEDEC: MO-220-VLLE-1; ComponentLink1Description: Manufacturer URL; ComponentLink1URL: http://www.actel.com/; ComponentLink2Description: ProASIC3 Datasheet; ComponentLink2URL: http://www.actel.com/documents/PA3_nano_DS.pdf; ComponentLink3Description: Package Mechanical Drawings; ComponentLink3URL: http://www.actel.com/documents/PckgMechDrwngs.pdf; ComponentLink4Description: ProASIC3 nano Documents; ComponentLink4URL: http://www.actel.com/products/pa3nano/docs.aspx
footprint QN68_N (QFN, 68-Leads, Body 8x8mm, Pitch 0.4mm, Thermal Pad 3.1x3.1mm, IPC Medium Density)
footprint QN68_L (QFN, 68-Leads, Body 8x8mm, Pitch 0.4mm, Thermal Pad 3.1x3.1mm, IPC High Density)
footprint QN68_M (QFN, 68-Leads, Body 8x8mm, Pitch 0.4mm, Thermal Pad 3.1x3.1mm, IPC Low Density)
part A pins: 39 IO17RSB0 (io), 40 IO16RSB0 (io), 41 GDA0/IO15RSB0 (io), 42 GDC0/IO14RSB0 (io), 43 IO13RSB0 (io), 47 IO12RSB0 (io), 48 IO11RSB0 (io), 49 IO09RSB0 (io), 50 IO05RSB0 (io), 51 IO00RSB0 (io), 52 IO07RSB0 (io), 53 IO03RSB0 (io)
part B pins: 18 IO39RSB1 (io), 19 IO37RSB1 (io), 20 IO35RSB1 (io), 21 IO33RSB1 (io), 22 IO31RSB1 (io), 23 IO30RSB1 (io), 27 IO27RSB1 (io), 28 IO25RSB1 (io), 29 IO23RSB1 (io), 30 IO21RSB1 (io), 31 IO19RSB1 (io), 54 IO18RSB1 (io), 55 IO20RSB1 (io), 56 IO22RSB1 (io), 57 IO24RSB1 (io), 58 IO28RSB1 (io), 62 IO32RSB1 (io), 63 IO34RSB1 (io), 64 IO36RSB1 (io)
part C pins: 1 IO60RSB2 (io), 2 IO54RSB2 (io), 3 IO52RSB2 (io), 4 IO50RSB2 (io), 5 IO49RSB2 (io), 6 GEC0/IO48RSB2 (io), 7 GEA0/IO47RSB2 (io), 11 IO46RSB2 (io), 12 IO45RSB2 (io), 13 IO44RSB2 (io), 14 IO43RSB2 (io), 15 IO42RSB2 (io), 16 IO41RSB2 (io), 17 IO40RSB2 (io), 65 IO61RSB2 (io), 66 IO58RSB2 (io), 67 IO56RSB2 (io), 68 IO63RSB2 (io)
part D pins: 32 TCK (in), 33 TDI (in), 34 TMS (in), 36 TDO (out), 37 TRST (in)
part E pins: 8 VCC (power), 10 VCCIB2 (power), 24 VCC (power), 26 VCCIB1 (power), 35 VPUMP (power), 38 VJTAG (power), 44 VCCIB0 (power), 46 VCC (power)
part F pins: 9 GND (power), 25 GND (power), 45 GND (power), 60 GND (power), 69 Thermal Pad (power)
part G pins: 59 NC, 61 NC
part A text: BANK 0
part B text: BANK 1
part C text: BANK 2

## A3PN015-QN68I
designator U?
ProASIC3 nano Flash FPGA, 49 User IOs, 15K System Gates, Standard Speed, 68-Pin QFP, Industrial Grade; DatasheetVersion: v0.6, Jan-2010; PackageVersion: rev40, Jun-2011; PackageReference: QN68; PackageDescription: 68-Pin Quad Flat No-Lead 0.4 mm Pitch (QN68); Code_JEDEC: MO-220-VLLE-1; ComponentLink1Description: Manufacturer URL; ComponentLink1URL: http://www.actel.com/; ComponentLink2Description: ProASIC3 Datasheet; ComponentLink2URL: http://www.actel.com/documents/PA3_nano_DS.pdf; ComponentLink3Description: Package Mechanical Drawings; ComponentLink3URL: http://www.actel.com/documents/PckgMechDrwngs.pdf; ComponentLink4Description: ProASIC3 nano Documents; ComponentLink4URL: http://www.actel.com/products/pa3nano/docs.aspx
footprint QN68_N (QFN, 68-Leads, Body 8x8mm, Pitch 0.4mm, Thermal Pad 3.1x3.1mm, IPC Medium Density)
footprint QN68_L (QFN, 68-Leads, Body 8x8mm, Pitch 0.4mm, Thermal Pad 3.1x3.1mm, IPC High Density)
footprint QN68_M (QFN, 68-Leads, Body 8x8mm, Pitch 0.4mm, Thermal Pad 3.1x3.1mm, IPC Low Density)
part A pins: 39 IO17RSB0 (io), 40 IO16RSB0 (io), 41 GDA0/IO15RSB0 (io), 42 GDC0/IO14RSB0 (io), 43 IO13RSB0 (io), 47 IO12RSB0 (io), 48 IO11RSB0 (io), 49 IO09RSB0 (io), 50 IO05RSB0 (io), 51 IO00RSB0 (io), 52 IO07RSB0 (io), 53 IO03RSB0 (io)
part B pins: 18 IO39RSB1 (io), 19 IO37RSB1 (io), 20 IO35RSB1 (io), 21 IO33RSB1 (io), 22 IO31RSB1 (io), 23 IO30RSB1 (io), 27 IO27RSB1 (io), 28 IO25RSB1 (io), 29 IO23RSB1 (io), 30 IO21RSB1 (io), 31 IO19RSB1 (io), 54 IO18RSB1 (io), 55 IO20RSB1 (io), 56 IO22RSB1 (io), 57 IO24RSB1 (io), 58 IO28RSB1 (io), 62 IO32RSB1 (io), 63 IO34RSB1 (io), 64 IO36RSB1 (io)
part C pins: 1 IO60RSB2 (io), 2 IO54RSB2 (io), 3 IO52RSB2 (io), 4 IO50RSB2 (io), 5 IO49RSB2 (io), 6 GEC0/IO48RSB2 (io), 7 GEA0/IO47RSB2 (io), 11 IO46RSB2 (io), 12 IO45RSB2 (io), 13 IO44RSB2 (io), 14 IO43RSB2 (io), 15 IO42RSB2 (io), 16 IO41RSB2 (io), 17 IO40RSB2 (io), 65 IO61RSB2 (io), 66 IO58RSB2 (io), 67 IO56RSB2 (io), 68 IO63RSB2 (io)
part D pins: 32 TCK (in), 33 TDI (in), 34 TMS (in), 36 TDO (out), 37 TRST (in)
part E pins: 8 VCC (power), 10 VCCIB2 (power), 24 VCC (power), 26 VCCIB1 (power), 35 VPUMP (power), 38 VJTAG (power), 44 VCCIB0 (power), 46 VCC (power)
part F pins: 9 GND (power), 25 GND (power), 45 GND (power), 60 GND (power), 69 Thermal Pad (power)
part G pins: 59 NC, 61 NC
part A text: BANK 0
part B text: BANK 1
part C text: BANK 2

## A3PN015-QNG68
designator U?
ProASIC3 nano Flash FPGA, 49 User IOs, 15K System Gates, Standard Speed, 68-Pin QFP, Pb-Free, Commerical Grade; DatasheetVersion: v0.6, Jan-2010; PackageVersion: rev40, Jun-2011; PackageReference: QN68; PackageDescription: 68-Pin Quad Flat No-Lead 0.4 mm Pitch (QN68); Code_JEDEC: MO-220-VLLE-1; ComponentLink1Description: Manufacturer URL; ComponentLink1URL: http://www.actel.com/; ComponentLink2Description: ProASIC3 Datasheet; ComponentLink2URL: http://www.actel.com/documents/PA3_nano_DS.pdf; ComponentLink3Description: Package Mechanical Drawings; ComponentLink3URL: http://www.actel.com/documents/PckgMechDrwngs.pdf; ComponentLink4Description: ProASIC3 nano Documents; ComponentLink4URL: http://www.actel.com/products/pa3nano/docs.aspx
footprint QN68_N (QFN, 68-Leads, Body 8x8mm, Pitch 0.4mm, Thermal Pad 3.1x3.1mm, IPC Medium Density)
footprint QN68_L (QFN, 68-Leads, Body 8x8mm, Pitch 0.4mm, Thermal Pad 3.1x3.1mm, IPC High Density)
footprint QN68_M (QFN, 68-Leads, Body 8x8mm, Pitch 0.4mm, Thermal Pad 3.1x3.1mm, IPC Low Density)
part A pins: 39 IO17RSB0 (io), 40 IO16RSB0 (io), 41 GDA0/IO15RSB0 (io), 42 GDC0/IO14RSB0 (io), 43 IO13RSB0 (io), 47 IO12RSB0 (io), 48 IO11RSB0 (io), 49 IO09RSB0 (io), 50 IO05RSB0 (io), 51 IO00RSB0 (io), 52 IO07RSB0 (io), 53 IO03RSB0 (io)
part B pins: 18 IO39RSB1 (io), 19 IO37RSB1 (io), 20 IO35RSB1 (io), 21 IO33RSB1 (io), 22 IO31RSB1 (io), 23 IO30RSB1 (io), 27 IO27RSB1 (io), 28 IO25RSB1 (io), 29 IO23RSB1 (io), 30 IO21RSB1 (io), 31 IO19RSB1 (io), 54 IO18RSB1 (io), 55 IO20RSB1 (io), 56 IO22RSB1 (io), 57 IO24RSB1 (io), 58 IO28RSB1 (io), 62 IO32RSB1 (io), 63 IO34RSB1 (io), 64 IO36RSB1 (io)
part C pins: 1 IO60RSB2 (io), 2 IO54RSB2 (io), 3 IO52RSB2 (io), 4 IO50RSB2 (io), 5 IO49RSB2 (io), 6 GEC0/IO48RSB2 (io), 7 GEA0/IO47RSB2 (io), 11 IO46RSB2 (io), 12 IO45RSB2 (io), 13 IO44RSB2 (io), 14 IO43RSB2 (io), 15 IO42RSB2 (io), 16 IO41RSB2 (io), 17 IO40RSB2 (io), 65 IO61RSB2 (io), 66 IO58RSB2 (io), 67 IO56RSB2 (io), 68 IO63RSB2 (io)
part D pins: 32 TCK (in), 33 TDI (in), 34 TMS (in), 36 TDO (out), 37 TRST (in)
part E pins: 8 VCC (power), 10 VCCIB2 (power), 24 VCC (power), 26 VCCIB1 (power), 35 VPUMP (power), 38 VJTAG (power), 44 VCCIB0 (power), 46 VCC (power)
part F pins: 9 GND (power), 25 GND (power), 45 GND (power), 60 GND (power), 69 Thermal Pad (power)
part G pins: 59 NC, 61 NC
part A text: BANK 0
part B text: BANK 1
part C text: BANK 2

## A3PN015-QNG68I
designator U?
ProASIC3 nano Flash FPGA, 49 User IOs, 15K System Gates, Standard Speed, 68-Pin QFP, Pb-Free, Industrial Grade; DatasheetVersion: v0.6, Jan-2010; PackageVersion: rev40, Jun-2011; PackageReference: QN68; PackageDescription: 68-Pin Quad Flat No-Lead 0.4 mm Pitch (QN68); Code_JEDEC: MO-220-VLLE-1; ComponentLink1Description: Manufacturer URL; ComponentLink1URL: http://www.actel.com/; ComponentLink2Description: ProASIC3 Datasheet; ComponentLink2URL: http://www.actel.com/documents/PA3_nano_DS.pdf; ComponentLink3Description: Package Mechanical Drawings; ComponentLink3URL: http://www.actel.com/documents/PckgMechDrwngs.pdf; ComponentLink4Description: ProASIC3 nano Documents; ComponentLink4URL: http://www.actel.com/products/pa3nano/docs.aspx
footprint QN68_N (QFN, 68-Leads, Body 8x8mm, Pitch 0.4mm, Thermal Pad 3.1x3.1mm, IPC Medium Density)
footprint QN68_L (QFN, 68-Leads, Body 8x8mm, Pitch 0.4mm, Thermal Pad 3.1x3.1mm, IPC High Density)
footprint QN68_M (QFN, 68-Leads, Body 8x8mm, Pitch 0.4mm, Thermal Pad 3.1x3.1mm, IPC Low Density)
part A pins: 39 IO17RSB0 (io), 40 IO16RSB0 (io), 41 GDA0/IO15RSB0 (io), 42 GDC0/IO14RSB0 (io), 43 IO13RSB0 (io), 47 IO12RSB0 (io), 48 IO11RSB0 (io), 49 IO09RSB0 (io), 50 IO05RSB0 (io), 51 IO00RSB0 (io), 52 IO07RSB0 (io), 53 IO03RSB0 (io)
part B pins: 18 IO39RSB1 (io), 19 IO37RSB1 (io), 20 IO35RSB1 (io), 21 IO33RSB1 (io), 22 IO31RSB1 (io), 23 IO30RSB1 (io), 27 IO27RSB1 (io), 28 IO25RSB1 (io), 29 IO23RSB1 (io), 30 IO21RSB1 (io), 31 IO19RSB1 (io), 54 IO18RSB1 (io), 55 IO20RSB1 (io), 56 IO22RSB1 (io), 57 IO24RSB1 (io), 58 IO28RSB1 (io), 62 IO32RSB1 (io), 63 IO34RSB1 (io), 64 IO36RSB1 (io)
part C pins: 1 IO60RSB2 (io), 2 IO54RSB2 (io), 3 IO52RSB2 (io), 4 IO50RSB2 (io), 5 IO49RSB2 (io), 6 GEC0/IO48RSB2 (io), 7 GEA0/IO47RSB2 (io), 11 IO46RSB2 (io), 12 IO45RSB2 (io), 13 IO44RSB2 (io), 14 IO43RSB2 (io), 15 IO42RSB2 (io), 16 IO41RSB2 (io), 17 IO40RSB2 (io), 65 IO61RSB2 (io), 66 IO58RSB2 (io), 67 IO56RSB2 (io), 68 IO63RSB2 (io)
part D pins: 32 TCK (in), 33 TDI (in), 34 TMS (in), 36 TDO (out), 37 TRST (in)
part E pins: 8 VCC (power), 10 VCCIB2 (power), 24 VCC (power), 26 VCCIB1 (power), 35 VPUMP (power), 38 VJTAG (power), 44 VCCIB0 (power), 46 VCC (power)
part F pins: 9 GND (power), 25 GND (power), 45 GND (power), 60 GND (power), 69 Thermal Pad (power)
part G pins: 59 NC, 61 NC
part A text: BANK 0
part B text: BANK 1
part C text: BANK 2

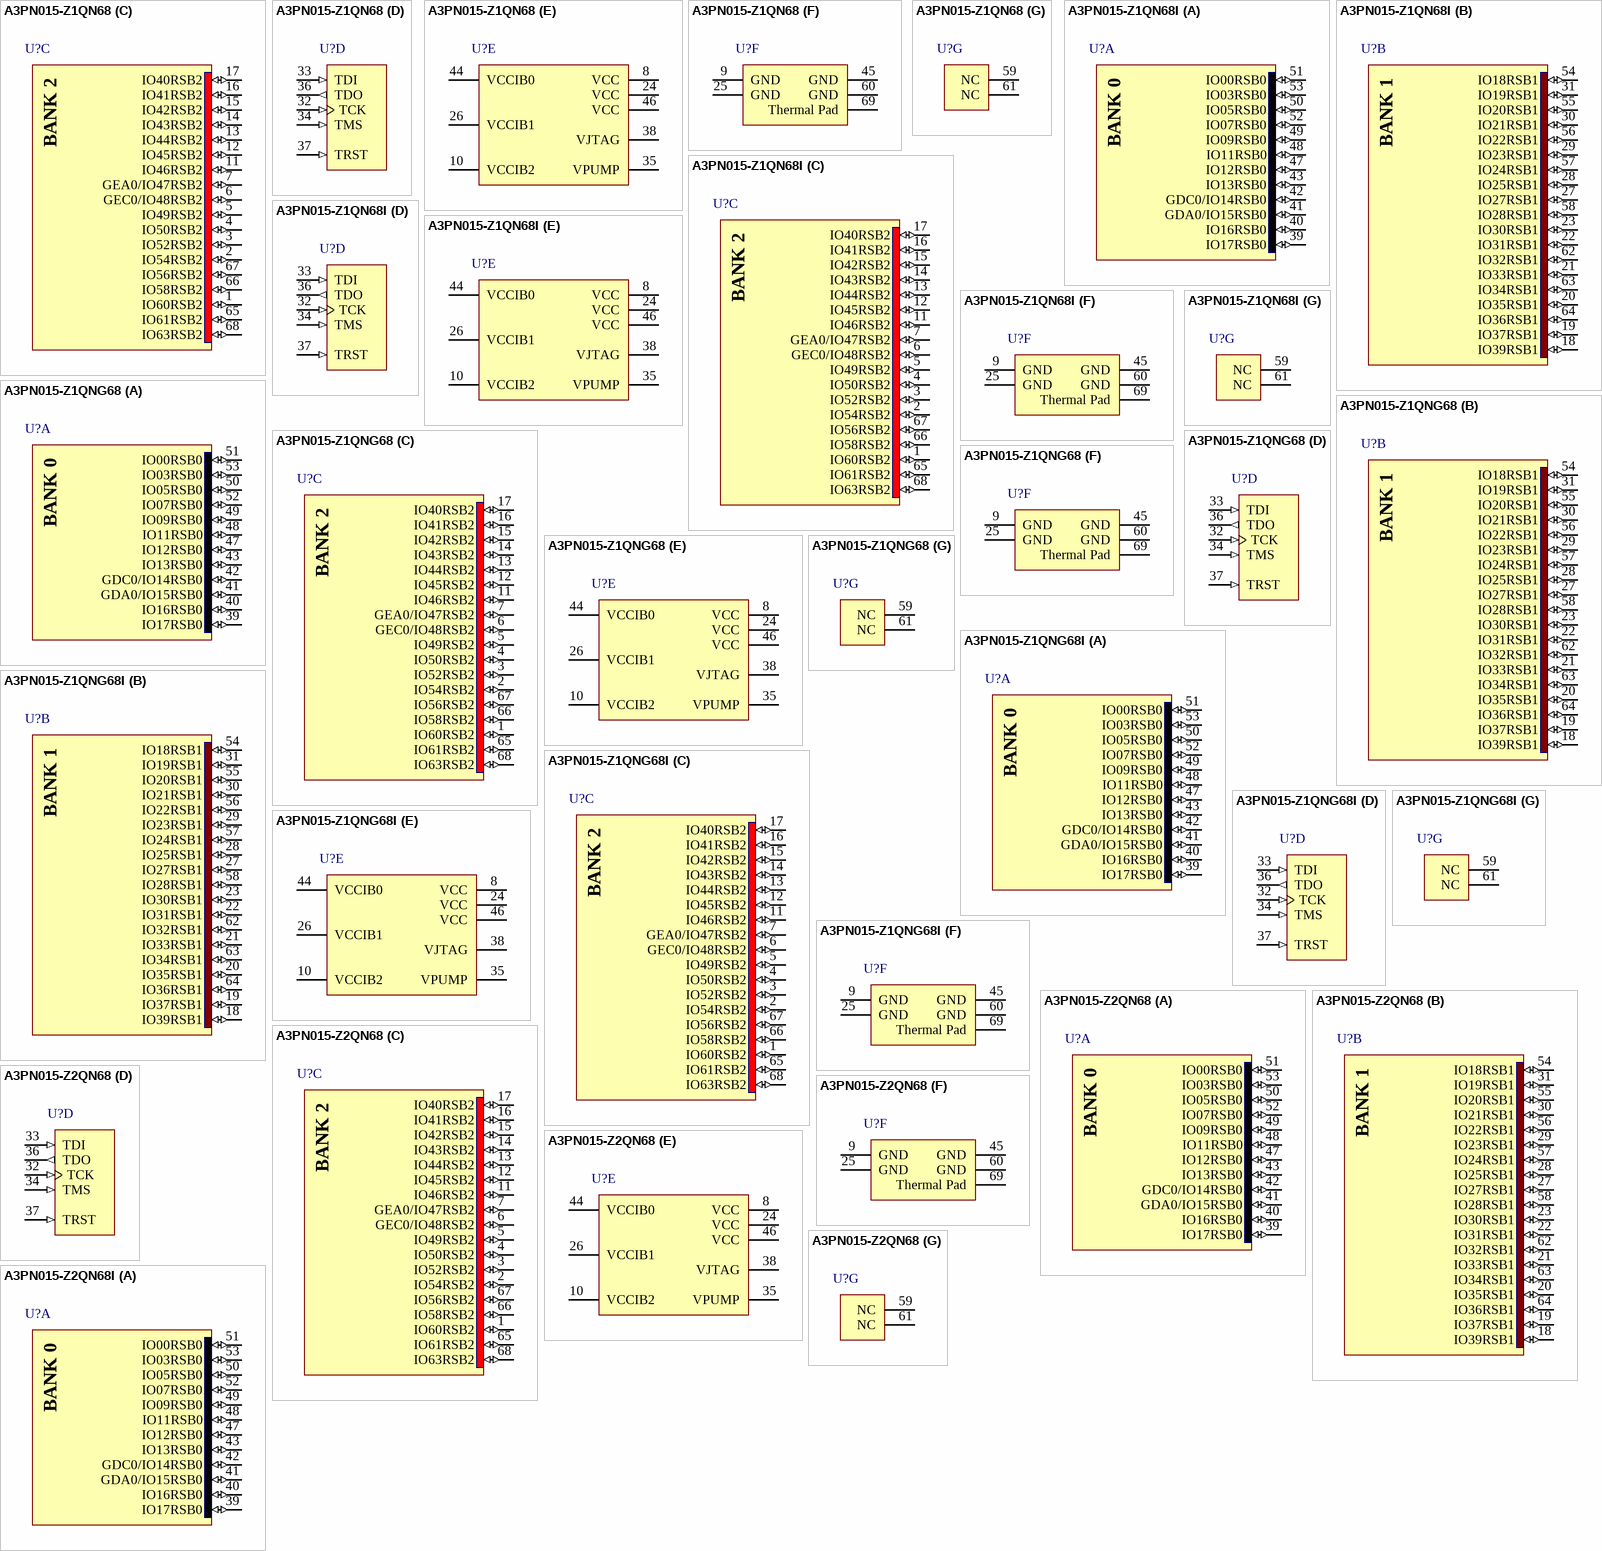
[diagram p7: symbols A3PN015-Z1QN68 to A3PN015-Z2QN68I]

## A3PN015-Z1QN68
designator U?
ProASIC3 nano Flash FPGA, 49 User IOs, 15K System Gates, Z Feature Grade, Speed 15% above Standard, 68-Pin QFP, Commerical Grade; DatasheetVersion: v0.6, Jan-2010; PackageVersion: rev40, Jun-2011; PackageReference: QN68; PackageDescription: 68-Pin Quad Flat No-Lead 0.4 mm Pitch (QN68); Code_JEDEC: MO-220-VLLE-1; ComponentLink1Description: Manufacturer URL; ComponentLink1URL: http://www.actel.com/; ComponentLink2Description: ProASIC3 Datasheet; ComponentLink2URL: http://www.actel.com/documents/PA3_nano_DS.pdf; ComponentLink3Description: Package Mechanical Drawings; ComponentLink3URL: http://www.actel.com/documents/PckgMechDrwngs.pdf; ComponentLink4Description: ProASIC3 nano Documents; ComponentLink4URL: http://www.actel.com/products/pa3nano/docs.aspx
footprint QN68_N (QFN, 68-Leads, Body 8x8mm, Pitch 0.4mm, Thermal Pad 3.1x3.1mm, IPC Medium Density)
footprint QN68_L (QFN, 68-Leads, Body 8x8mm, Pitch 0.4mm, Thermal Pad 3.1x3.1mm, IPC High Density)
footprint QN68_M (QFN, 68-Leads, Body 8x8mm, Pitch 0.4mm, Thermal Pad 3.1x3.1mm, IPC Low Density)
part A pins: 39 IO17RSB0 (io), 40 IO16RSB0 (io), 41 GDA0/IO15RSB0 (io), 42 GDC0/IO14RSB0 (io), 43 IO13RSB0 (io), 47 IO12RSB0 (io), 48 IO11RSB0 (io), 49 IO09RSB0 (io), 50 IO05RSB0 (io), 51 IO00RSB0 (io), 52 IO07RSB0 (io), 53 IO03RSB0 (io)
part B pins: 18 IO39RSB1 (io), 19 IO37RSB1 (io), 20 IO35RSB1 (io), 21 IO33RSB1 (io), 22 IO31RSB1 (io), 23 IO30RSB1 (io), 27 IO27RSB1 (io), 28 IO25RSB1 (io), 29 IO23RSB1 (io), 30 IO21RSB1 (io), 31 IO19RSB1 (io), 54 IO18RSB1 (io), 55 IO20RSB1 (io), 56 IO22RSB1 (io), 57 IO24RSB1 (io), 58 IO28RSB1 (io), 62 IO32RSB1 (io), 63 IO34RSB1 (io), 64 IO36RSB1 (io)
part C pins: 1 IO60RSB2 (io), 2 IO54RSB2 (io), 3 IO52RSB2 (io), 4 IO50RSB2 (io), 5 IO49RSB2 (io), 6 GEC0/IO48RSB2 (io), 7 GEA0/IO47RSB2 (io), 11 IO46RSB2 (io), 12 IO45RSB2 (io), 13 IO44RSB2 (io), 14 IO43RSB2 (io), 15 IO42RSB2 (io), 16 IO41RSB2 (io), 17 IO40RSB2 (io), 65 IO61RSB2 (io), 66 IO58RSB2 (io), 67 IO56RSB2 (io), 68 IO63RSB2 (io)
part D pins: 32 TCK (in), 33 TDI (in), 34 TMS (in), 36 TDO (out), 37 TRST (in)
part E pins: 8 VCC (power), 10 VCCIB2 (power), 24 VCC (power), 26 VCCIB1 (power), 35 VPUMP (power), 38 VJTAG (power), 44 VCCIB0 (power), 46 VCC (power)
part F pins: 9 GND (power), 25 GND (power), 45 GND (power), 60 GND (power), 69 Thermal Pad (power)
part G pins: 59 NC, 61 NC
part A text: BANK 0
part B text: BANK 1
part C text: BANK 2

## A3PN015-Z1QN68I
designator U?
ProASIC3 nano Flash FPGA, 49 User IOs, 15K System Gates, Z Feature Grade, Speed 15% above Standard, 68-Pin QFP, Industrial Grade; DatasheetVersion: v0.6, Jan-2010; PackageVersion: rev40, Jun-2011; PackageReference: QN68; PackageDescription: 68-Pin Quad Flat No-Lead 0.4 mm Pitch (QN68); Code_JEDEC: MO-220-VLLE-1; ComponentLink1Description: Manufacturer URL; ComponentLink1URL: http://www.actel.com/; ComponentLink2Description: ProASIC3 Datasheet; ComponentLink2URL: http://www.actel.com/documents/PA3_nano_DS.pdf; ComponentLink3Description: Package Mechanical Drawings; ComponentLink3URL: http://www.actel.com/documents/PckgMechDrwngs.pdf; ComponentLink4Description: ProASIC3 nano Documents; ComponentLink4URL: http://www.actel.com/products/pa3nano/docs.aspx
footprint QN68_N (QFN, 68-Leads, Body 8x8mm, Pitch 0.4mm, Thermal Pad 3.1x3.1mm, IPC Medium Density)
footprint QN68_L (QFN, 68-Leads, Body 8x8mm, Pitch 0.4mm, Thermal Pad 3.1x3.1mm, IPC High Density)
footprint QN68_M (QFN, 68-Leads, Body 8x8mm, Pitch 0.4mm, Thermal Pad 3.1x3.1mm, IPC Low Density)
part A pins: 39 IO17RSB0 (io), 40 IO16RSB0 (io), 41 GDA0/IO15RSB0 (io), 42 GDC0/IO14RSB0 (io), 43 IO13RSB0 (io), 47 IO12RSB0 (io), 48 IO11RSB0 (io), 49 IO09RSB0 (io), 50 IO05RSB0 (io), 51 IO00RSB0 (io), 52 IO07RSB0 (io), 53 IO03RSB0 (io)
part B pins: 18 IO39RSB1 (io), 19 IO37RSB1 (io), 20 IO35RSB1 (io), 21 IO33RSB1 (io), 22 IO31RSB1 (io), 23 IO30RSB1 (io), 27 IO27RSB1 (io), 28 IO25RSB1 (io), 29 IO23RSB1 (io), 30 IO21RSB1 (io), 31 IO19RSB1 (io), 54 IO18RSB1 (io), 55 IO20RSB1 (io), 56 IO22RSB1 (io), 57 IO24RSB1 (io), 58 IO28RSB1 (io), 62 IO32RSB1 (io), 63 IO34RSB1 (io), 64 IO36RSB1 (io)
part C pins: 1 IO60RSB2 (io), 2 IO54RSB2 (io), 3 IO52RSB2 (io), 4 IO50RSB2 (io), 5 IO49RSB2 (io), 6 GEC0/IO48RSB2 (io), 7 GEA0/IO47RSB2 (io), 11 IO46RSB2 (io), 12 IO45RSB2 (io), 13 IO44RSB2 (io), 14 IO43RSB2 (io), 15 IO42RSB2 (io), 16 IO41RSB2 (io), 17 IO40RSB2 (io), 65 IO61RSB2 (io), 66 IO58RSB2 (io), 67 IO56RSB2 (io), 68 IO63RSB2 (io)
part D pins: 32 TCK (in), 33 TDI (in), 34 TMS (in), 36 TDO (out), 37 TRST (in)
part E pins: 8 VCC (power), 10 VCCIB2 (power), 24 VCC (power), 26 VCCIB1 (power), 35 VPUMP (power), 38 VJTAG (power), 44 VCCIB0 (power), 46 VCC (power)
part F pins: 9 GND (power), 25 GND (power), 45 GND (power), 60 GND (power), 69 Thermal Pad (power)
part G pins: 59 NC, 61 NC
part A text: BANK 0
part B text: BANK 1
part C text: BANK 2

## A3PN015-Z1QNG68
designator U?
ProASIC3 nano Flash FPGA, 49 User IOs, 15K System Gates, Z Feature Grade, Speed 15% above Standard, 68-Pin QFP, Pb-Free, Commerical Grade; DatasheetVersion: v0.6, Jan-2010; PackageVersion: rev40, Jun-2011; PackageReference: QN68; PackageDescription: 68-Pin Quad Flat No-Lead 0.4 mm Pitch (QN68); Code_JEDEC: MO-220-VLLE-1; ComponentLink1Description: Manufacturer URL; ComponentLink1URL: http://www.actel.com/; ComponentLink2Description: ProASIC3 Datasheet; ComponentLink2URL: http://www.actel.com/documents/PA3_nano_DS.pdf; ComponentLink3Description: Package Mechanical Drawings; ComponentLink3URL: http://www.actel.com/documents/PckgMechDrwngs.pdf; ComponentLink4Description: ProASIC3 nano Documents; ComponentLink4URL: http://www.actel.com/products/pa3nano/docs.aspx
footprint QN68_N (QFN, 68-Leads, Body 8x8mm, Pitch 0.4mm, Thermal Pad 3.1x3.1mm, IPC Medium Density)
footprint QN68_L (QFN, 68-Leads, Body 8x8mm, Pitch 0.4mm, Thermal Pad 3.1x3.1mm, IPC High Density)
footprint QN68_M (QFN, 68-Leads, Body 8x8mm, Pitch 0.4mm, Thermal Pad 3.1x3.1mm, IPC Low Density)
part A pins: 39 IO17RSB0 (io), 40 IO16RSB0 (io), 41 GDA0/IO15RSB0 (io), 42 GDC0/IO14RSB0 (io), 43 IO13RSB0 (io), 47 IO12RSB0 (io), 48 IO11RSB0 (io), 49 IO09RSB0 (io), 50 IO05RSB0 (io), 51 IO00RSB0 (io), 52 IO07RSB0 (io), 53 IO03RSB0 (io)
part B pins: 18 IO39RSB1 (io), 19 IO37RSB1 (io), 20 IO35RSB1 (io), 21 IO33RSB1 (io), 22 IO31RSB1 (io), 23 IO30RSB1 (io), 27 IO27RSB1 (io), 28 IO25RSB1 (io), 29 IO23RSB1 (io), 30 IO21RSB1 (io), 31 IO19RSB1 (io), 54 IO18RSB1 (io), 55 IO20RSB1 (io), 56 IO22RSB1 (io), 57 IO24RSB1 (io), 58 IO28RSB1 (io), 62 IO32RSB1 (io), 63 IO34RSB1 (io), 64 IO36RSB1 (io)
part C pins: 1 IO60RSB2 (io), 2 IO54RSB2 (io), 3 IO52RSB2 (io), 4 IO50RSB2 (io), 5 IO49RSB2 (io), 6 GEC0/IO48RSB2 (io), 7 GEA0/IO47RSB2 (io), 11 IO46RSB2 (io), 12 IO45RSB2 (io), 13 IO44RSB2 (io), 14 IO43RSB2 (io), 15 IO42RSB2 (io), 16 IO41RSB2 (io), 17 IO40RSB2 (io), 65 IO61RSB2 (io), 66 IO58RSB2 (io), 67 IO56RSB2 (io), 68 IO63RSB2 (io)
part D pins: 32 TCK (in), 33 TDI (in), 34 TMS (in), 36 TDO (out), 37 TRST (in)
part E pins: 8 VCC (power), 10 VCCIB2 (power), 24 VCC (power), 26 VCCIB1 (power), 35 VPUMP (power), 38 VJTAG (power), 44 VCCIB0 (power), 46 VCC (power)
part F pins: 9 GND (power), 25 GND (power), 45 GND (power), 60 GND (power), 69 Thermal Pad (power)
part G pins: 59 NC, 61 NC
part A text: BANK 0
part B text: BANK 1
part C text: BANK 2

## A3PN015-Z1QNG68I
designator U?
ProASIC3 nano Flash FPGA, 49 User IOs, 15K System Gates, Z Feature Grade, Speed 15% above Standard, 68-Pin QFP, Pb-Free, Industrial Grade; DatasheetVersion: v0.6, Jan-2010; PackageVersion: rev40, Jun-2011; PackageReference: QN68; PackageDescription: 68-Pin Quad Flat No-Lead 0.4 mm Pitch (QN68); Code_JEDEC: MO-220-VLLE-1; ComponentLink1Description: Manufacturer URL; ComponentLink1URL: http://www.actel.com/; ComponentLink2Description: ProASIC3 Datasheet; ComponentLink2URL: http://www.actel.com/documents/PA3_nano_DS.pdf; ComponentLink3Description: Package Mechanical Drawings; ComponentLink3URL: http://www.actel.com/documents/PckgMechDrwngs.pdf; ComponentLink4Description: ProASIC3 nano Documents; ComponentLink4URL: http://www.actel.com/products/pa3nano/docs.aspx
footprint QN68_N (QFN, 68-Leads, Body 8x8mm, Pitch 0.4mm, Thermal Pad 3.1x3.1mm, IPC Medium Density)
footprint QN68_L (QFN, 68-Leads, Body 8x8mm, Pitch 0.4mm, Thermal Pad 3.1x3.1mm, IPC High Density)
footprint QN68_M (QFN, 68-Leads, Body 8x8mm, Pitch 0.4mm, Thermal Pad 3.1x3.1mm, IPC Low Density)
part A pins: 39 IO17RSB0 (io), 40 IO16RSB0 (io), 41 GDA0/IO15RSB0 (io), 42 GDC0/IO14RSB0 (io), 43 IO13RSB0 (io), 47 IO12RSB0 (io), 48 IO11RSB0 (io), 49 IO09RSB0 (io), 50 IO05RSB0 (io), 51 IO00RSB0 (io), 52 IO07RSB0 (io), 53 IO03RSB0 (io)
part B pins: 18 IO39RSB1 (io), 19 IO37RSB1 (io), 20 IO35RSB1 (io), 21 IO33RSB1 (io), 22 IO31RSB1 (io), 23 IO30RSB1 (io), 27 IO27RSB1 (io), 28 IO25RSB1 (io), 29 IO23RSB1 (io), 30 IO21RSB1 (io), 31 IO19RSB1 (io), 54 IO18RSB1 (io), 55 IO20RSB1 (io), 56 IO22RSB1 (io), 57 IO24RSB1 (io), 58 IO28RSB1 (io), 62 IO32RSB1 (io), 63 IO34RSB1 (io), 64 IO36RSB1 (io)
part C pins: 1 IO60RSB2 (io), 2 IO54RSB2 (io), 3 IO52RSB2 (io), 4 IO50RSB2 (io), 5 IO49RSB2 (io), 6 GEC0/IO48RSB2 (io), 7 GEA0/IO47RSB2 (io), 11 IO46RSB2 (io), 12 IO45RSB2 (io), 13 IO44RSB2 (io), 14 IO43RSB2 (io), 15 IO42RSB2 (io), 16 IO41RSB2 (io), 17 IO40RSB2 (io), 65 IO61RSB2 (io), 66 IO58RSB2 (io), 67 IO56RSB2 (io), 68 IO63RSB2 (io)
part D pins: 32 TCK (in), 33 TDI (in), 34 TMS (in), 36 TDO (out), 37 TRST (in)
part E pins: 8 VCC (power), 10 VCCIB2 (power), 24 VCC (power), 26 VCCIB1 (power), 35 VPUMP (power), 38 VJTAG (power), 44 VCCIB0 (power), 46 VCC (power)
part F pins: 9 GND (power), 25 GND (power), 45 GND (power), 60 GND (power), 69 Thermal Pad (power)
part G pins: 59 NC, 61 NC
part A text: BANK 0
part B text: BANK 1
part C text: BANK 2

## A3PN015-Z2QN68
designator U?
ProASIC3 nano Flash FPGA, 49 User IOs, 15K System Gates, Z Feature Grade, Speed 25% above Standard, 68-Pin QFP, Commerical Grade; DatasheetVersion: v0.6, Jan-2010; PackageVersion: rev40, Jun-2011; PackageReference: QN68; PackageDescription: 68-Pin Quad Flat No-Lead 0.4 mm Pitch (QN68); Code_JEDEC: MO-220-VLLE-1; ComponentLink1Description: Manufacturer URL; ComponentLink1URL: http://www.actel.com/; ComponentLink2Description: ProASIC3 Datasheet; ComponentLink2URL: http://www.actel.com/documents/PA3_nano_DS.pdf; ComponentLink3Description: Package Mechanical Drawings; ComponentLink3URL: http://www.actel.com/documents/PckgMechDrwngs.pdf; ComponentLink4Description: ProASIC3 nano Documents; ComponentLink4URL: http://www.actel.com/products/pa3nano/docs.aspx
footprint QN68_N (QFN, 68-Leads, Body 8x8mm, Pitch 0.4mm, Thermal Pad 3.1x3.1mm, IPC Medium Density)
footprint QN68_L (QFN, 68-Leads, Body 8x8mm, Pitch 0.4mm, Thermal Pad 3.1x3.1mm, IPC High Density)
footprint QN68_M (QFN, 68-Leads, Body 8x8mm, Pitch 0.4mm, Thermal Pad 3.1x3.1mm, IPC Low Density)
part A pins: 39 IO17RSB0 (io), 40 IO16RSB0 (io), 41 GDA0/IO15RSB0 (io), 42 GDC0/IO14RSB0 (io), 43 IO13RSB0 (io), 47 IO12RSB0 (io), 48 IO11RSB0 (io), 49 IO09RSB0 (io), 50 IO05RSB0 (io), 51 IO00RSB0 (io), 52 IO07RSB0 (io), 53 IO03RSB0 (io)
part B pins: 18 IO39RSB1 (io), 19 IO37RSB1 (io), 20 IO35RSB1 (io), 21 IO33RSB1 (io), 22 IO31RSB1 (io), 23 IO30RSB1 (io), 27 IO27RSB1 (io), 28 IO25RSB1 (io), 29 IO23RSB1 (io), 30 IO21RSB1 (io), 31 IO19RSB1 (io), 54 IO18RSB1 (io), 55 IO20RSB1 (io), 56 IO22RSB1 (io), 57 IO24RSB1 (io), 58 IO28RSB1 (io), 62 IO32RSB1 (io), 63 IO34RSB1 (io), 64 IO36RSB1 (io)
part C pins: 1 IO60RSB2 (io), 2 IO54RSB2 (io), 3 IO52RSB2 (io), 4 IO50RSB2 (io), 5 IO49RSB2 (io), 6 GEC0/IO48RSB2 (io), 7 GEA0/IO47RSB2 (io), 11 IO46RSB2 (io), 12 IO45RSB2 (io), 13 IO44RSB2 (io), 14 IO43RSB2 (io), 15 IO42RSB2 (io), 16 IO41RSB2 (io), 17 IO40RSB2 (io), 65 IO61RSB2 (io), 66 IO58RSB2 (io), 67 IO56RSB2 (io), 68 IO63RSB2 (io)
part D pins: 32 TCK (in), 33 TDI (in), 34 TMS (in), 36 TDO (out), 37 TRST (in)
part E pins: 8 VCC (power), 10 VCCIB2 (power), 24 VCC (power), 26 VCCIB1 (power), 35 VPUMP (power), 38 VJTAG (power), 44 VCCIB0 (power), 46 VCC (power)
part F pins: 9 GND (power), 25 GND (power), 45 GND (power), 60 GND (power), 69 Thermal Pad (power)
part G pins: 59 NC, 61 NC
part A text: BANK 0
part B text: BANK 1
part C text: BANK 2

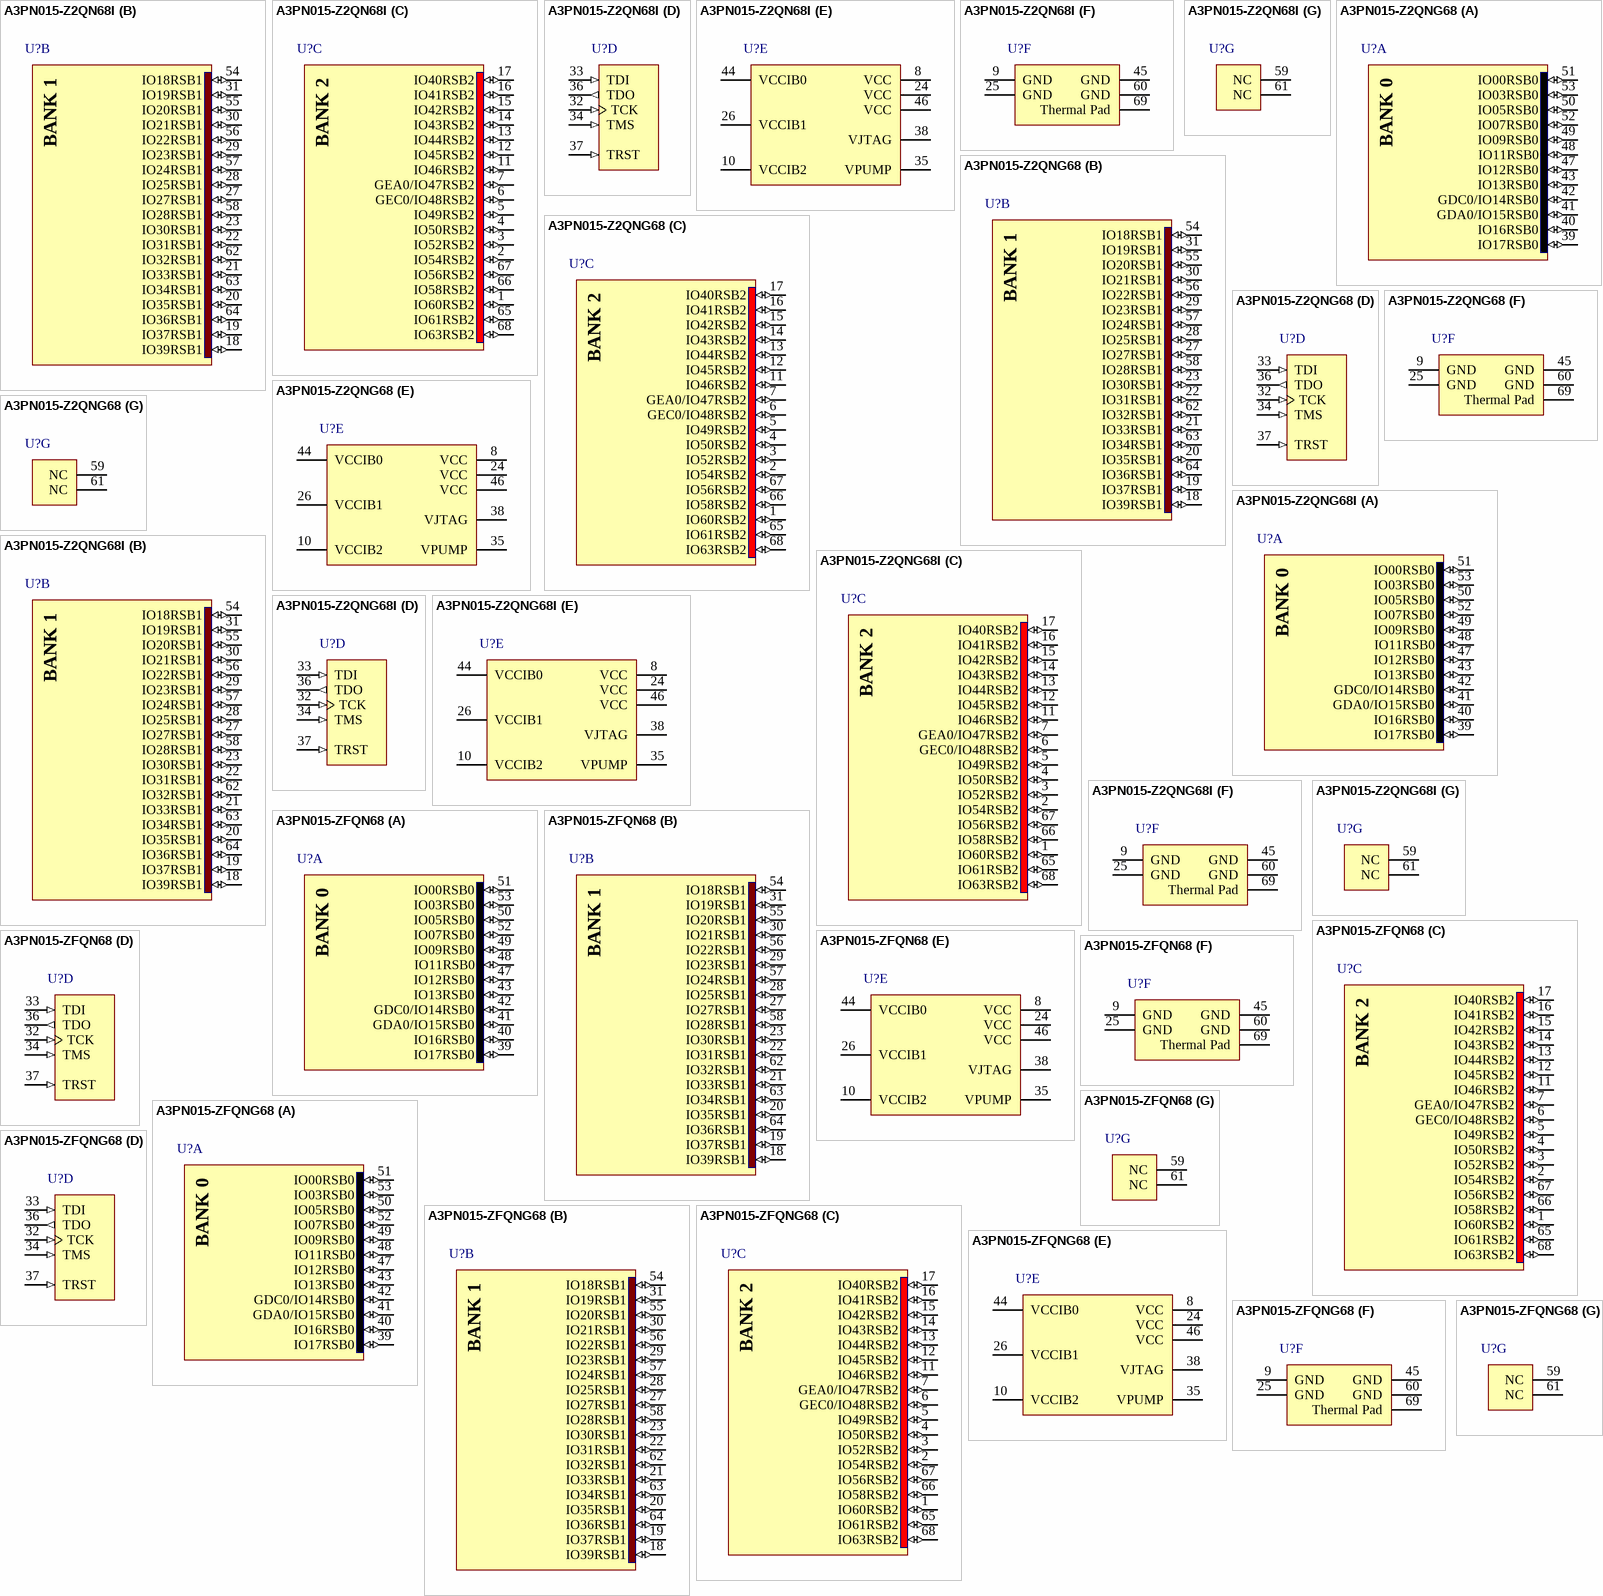
[diagram p8: symbols A3PN015-Z2QN68I to A3PN015-ZFQNG68]

## A3PN015-Z2QN68I
designator U?
ProASIC3 nano Flash FPGA, 49 User IOs, 15K System Gates, Z Feature Grade, Speed 25% above Standard, 68-Pin QFP, Industrial Grade; DatasheetVersion: v0.6, Jan-2010; PackageVersion: rev40, Jun-2011; PackageReference: QN68; PackageDescription: 68-Pin Quad Flat No-Lead 0.4 mm Pitch (QN68); Code_JEDEC: MO-220-VLLE-1; ComponentLink1Description: Manufacturer URL; ComponentLink1URL: http://www.actel.com/; ComponentLink2Description: ProASIC3 Datasheet; ComponentLink2URL: http://www.actel.com/documents/PA3_nano_DS.pdf; ComponentLink3Description: Package Mechanical Drawings; ComponentLink3URL: http://www.actel.com/documents/PckgMechDrwngs.pdf; ComponentLink4Description: ProASIC3 nano Documents; ComponentLink4URL: http://www.actel.com/products/pa3nano/docs.aspx
footprint QN68_N (QFN, 68-Leads, Body 8x8mm, Pitch 0.4mm, Thermal Pad 3.1x3.1mm, IPC Medium Density)
footprint QN68_L (QFN, 68-Leads, Body 8x8mm, Pitch 0.4mm, Thermal Pad 3.1x3.1mm, IPC High Density)
footprint QN68_M (QFN, 68-Leads, Body 8x8mm, Pitch 0.4mm, Thermal Pad 3.1x3.1mm, IPC Low Density)
part A pins: 39 IO17RSB0 (io), 40 IO16RSB0 (io), 41 GDA0/IO15RSB0 (io), 42 GDC0/IO14RSB0 (io), 43 IO13RSB0 (io), 47 IO12RSB0 (io), 48 IO11RSB0 (io), 49 IO09RSB0 (io), 50 IO05RSB0 (io), 51 IO00RSB0 (io), 52 IO07RSB0 (io), 53 IO03RSB0 (io)
part B pins: 18 IO39RSB1 (io), 19 IO37RSB1 (io), 20 IO35RSB1 (io), 21 IO33RSB1 (io), 22 IO31RSB1 (io), 23 IO30RSB1 (io), 27 IO27RSB1 (io), 28 IO25RSB1 (io), 29 IO23RSB1 (io), 30 IO21RSB1 (io), 31 IO19RSB1 (io), 54 IO18RSB1 (io), 55 IO20RSB1 (io), 56 IO22RSB1 (io), 57 IO24RSB1 (io), 58 IO28RSB1 (io), 62 IO32RSB1 (io), 63 IO34RSB1 (io), 64 IO36RSB1 (io)
part C pins: 1 IO60RSB2 (io), 2 IO54RSB2 (io), 3 IO52RSB2 (io), 4 IO50RSB2 (io), 5 IO49RSB2 (io), 6 GEC0/IO48RSB2 (io), 7 GEA0/IO47RSB2 (io), 11 IO46RSB2 (io), 12 IO45RSB2 (io), 13 IO44RSB2 (io), 14 IO43RSB2 (io), 15 IO42RSB2 (io), 16 IO41RSB2 (io), 17 IO40RSB2 (io), 65 IO61RSB2 (io), 66 IO58RSB2 (io), 67 IO56RSB2 (io), 68 IO63RSB2 (io)
part D pins: 32 TCK (in), 33 TDI (in), 34 TMS (in), 36 TDO (out), 37 TRST (in)
part E pins: 8 VCC (power), 10 VCCIB2 (power), 24 VCC (power), 26 VCCIB1 (power), 35 VPUMP (power), 38 VJTAG (power), 44 VCCIB0 (power), 46 VCC (power)
part F pins: 9 GND (power), 25 GND (power), 45 GND (power), 60 GND (power), 69 Thermal Pad (power)
part G pins: 59 NC, 61 NC
part A text: BANK 0
part B text: BANK 1
part C text: BANK 2

## A3PN015-Z2QNG68
designator U?
ProASIC3 nano Flash FPGA, 49 User IOs, 15K System Gates, Z Feature Grade, Speed 25% above Standard, 68-Pin QFP, Pb-Free, Commerical Grade; DatasheetVersion: v0.6, Jan-2010; PackageVersion: rev40, Jun-2011; PackageReference: QN68; PackageDescription: 68-Pin Quad Flat No-Lead 0.4 mm Pitch (QN68); Code_JEDEC: MO-220-VLLE-1; ComponentLink1Description: Manufacturer URL; ComponentLink1URL: http://www.actel.com/; ComponentLink2Description: ProASIC3 Datasheet; ComponentLink2URL: http://www.actel.com/documents/PA3_nano_DS.pdf; ComponentLink3Description: Package Mechanical Drawings; ComponentLink3URL: http://www.actel.com/documents/PckgMechDrwngs.pdf; ComponentLink4Description: ProASIC3 nano Documents; ComponentLink4URL: http://www.actel.com/products/pa3nano/docs.aspx
footprint QN68_N (QFN, 68-Leads, Body 8x8mm, Pitch 0.4mm, Thermal Pad 3.1x3.1mm, IPC Medium Density)
footprint QN68_L (QFN, 68-Leads, Body 8x8mm, Pitch 0.4mm, Thermal Pad 3.1x3.1mm, IPC High Density)
footprint QN68_M (QFN, 68-Leads, Body 8x8mm, Pitch 0.4mm, Thermal Pad 3.1x3.1mm, IPC Low Density)
part A pins: 39 IO17RSB0 (io), 40 IO16RSB0 (io), 41 GDA0/IO15RSB0 (io), 42 GDC0/IO14RSB0 (io), 43 IO13RSB0 (io), 47 IO12RSB0 (io), 48 IO11RSB0 (io), 49 IO09RSB0 (io), 50 IO05RSB0 (io), 51 IO00RSB0 (io), 52 IO07RSB0 (io), 53 IO03RSB0 (io)
part B pins: 18 IO39RSB1 (io), 19 IO37RSB1 (io), 20 IO35RSB1 (io), 21 IO33RSB1 (io), 22 IO31RSB1 (io), 23 IO30RSB1 (io), 27 IO27RSB1 (io), 28 IO25RSB1 (io), 29 IO23RSB1 (io), 30 IO21RSB1 (io), 31 IO19RSB1 (io), 54 IO18RSB1 (io), 55 IO20RSB1 (io), 56 IO22RSB1 (io), 57 IO24RSB1 (io), 58 IO28RSB1 (io), 62 IO32RSB1 (io), 63 IO34RSB1 (io), 64 IO36RSB1 (io)
part C pins: 1 IO60RSB2 (io), 2 IO54RSB2 (io), 3 IO52RSB2 (io), 4 IO50RSB2 (io), 5 IO49RSB2 (io), 6 GEC0/IO48RSB2 (io), 7 GEA0/IO47RSB2 (io), 11 IO46RSB2 (io), 12 IO45RSB2 (io), 13 IO44RSB2 (io), 14 IO43RSB2 (io), 15 IO42RSB2 (io), 16 IO41RSB2 (io), 17 IO40RSB2 (io), 65 IO61RSB2 (io), 66 IO58RSB2 (io), 67 IO56RSB2 (io), 68 IO63RSB2 (io)
part D pins: 32 TCK (in), 33 TDI (in), 34 TMS (in), 36 TDO (out), 37 TRST (in)
part E pins: 8 VCC (power), 10 VCCIB2 (power), 24 VCC (power), 26 VCCIB1 (power), 35 VPUMP (power), 38 VJTAG (power), 44 VCCIB0 (power), 46 VCC (power)
part F pins: 9 GND (power), 25 GND (power), 45 GND (power), 60 GND (power), 69 Thermal Pad (power)
part G pins: 59 NC, 61 NC
part A text: BANK 0
part B text: BANK 1
part C text: BANK 2